# Altium schematic symbol library VC099_V13_20211125_Library.SchLib: 284 symbols (part 13 of 28)
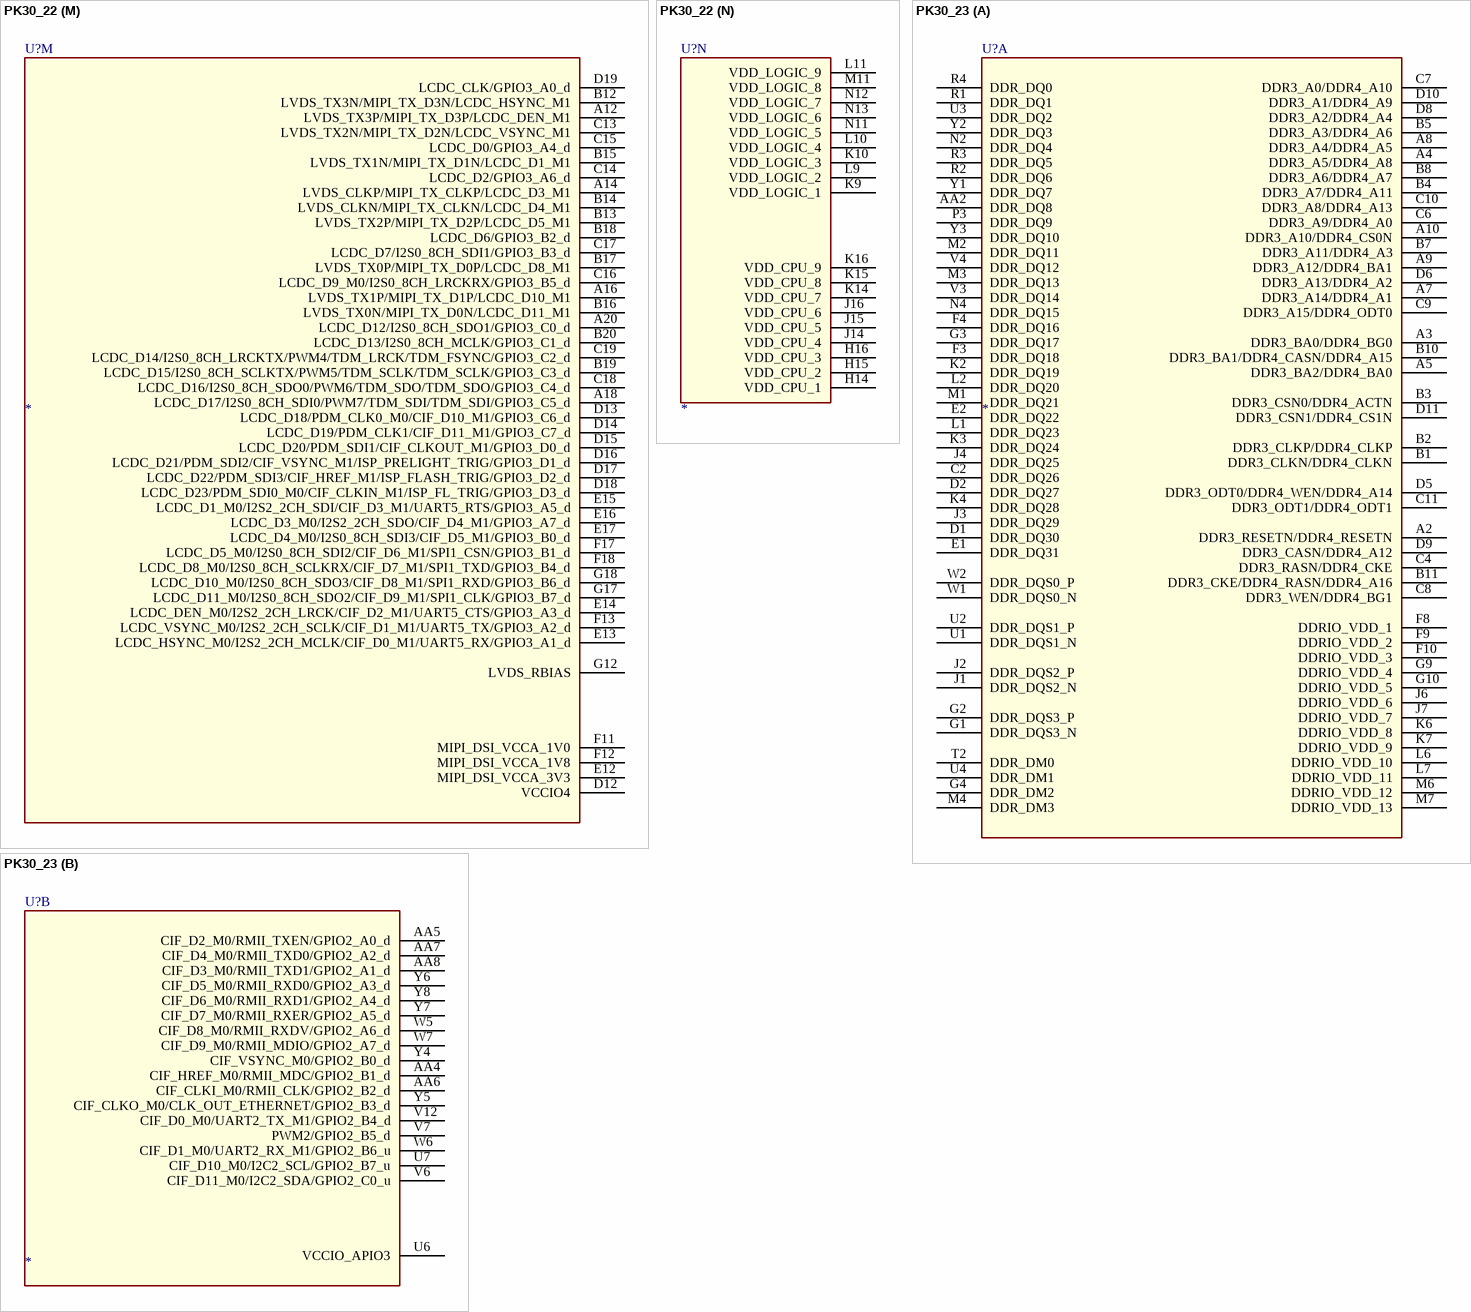
[diagram p375: symbols PK30_22 to PK30_23]

## PK30_22
designator U?
SPLIT_INST: TRUE; SWAP_INFO: (S1+S2+S3+S4+S5+S6+S7+S8+S9+S10+S11+S12+S13+S14)
part A pins: A2 DDR3_RESETN/DDR4_RESETN, A3 DDR3_BA0/DDR4_BG0, A4 DDR3_A5/DDR4_A8, A5 DDR3_BA2/DDR4_BA0, A7 DDR3_A14/DDR4_A1, A8 DDR3_A4/DDR4_A5, A9 DDR3_A12/DDR4_BA1, A10 DDR3_A10/DDR4_CS0N, AA2 DDR_DQ8, B1 DDR3_CLKN/DDR4_CLKN, B2 DDR3_CLKP/DDR4_CLKP, B3 DDR3_CSN0/DDR4_ACTN, B4 DDR3_A7/DDR4_A11, B5 DDR3_A3/DDR4_A6, B7 DDR3_A11/DDR4_A3, B8 DDR3_A6/DDR4_A7, B10 DDR3_BA1/DDR4_CASN/DDR4_A15, B11 DDR3_CKE/DDR4_RASN/DDR4_A16, C2 DDR_DQ26, C4 DDR3_RASN/DDR4_CKE, C6 DDR3_A9/DDR4_A0, C7 DDR3_A0/DDR4_A10, C8 DDR3_WEN/DDR4_BG1, C9 DDR3_A15/DDR4_ODT0, C10 DDR3_A8/DDR4_A13, C11 DDR3_ODT1/DDR4_ODT1, D1 DDR_DQ30, D2 DDR_DQ27, D5 DDR3_ODT0/DDR4_WEN/DDR4_A14, D6 DDR3_A13/DDR4_A2, D8 DDR3_A2/DDR4_A4, D9 DDR3_CASN/DDR4_A12, D10 DDR3_A1/DDR4_A9, D11 DDR3_CSN1/DDR4_CS1N, E1 DDR_DQ31, E2 DDR_DQ22, F3 DDR_DQ18, F4 DDR_DQ16, F8 DDRIO_VDD_1, F9 DDRIO_VDD_2, F10 DDRIO_VDD_3, G1 DDR_DQS3_N, G2 DDR_DQS3_P, G3 DDR_DQ17, G4 DDR_DM2, G9 DDRIO_VDD_4, G10 DDRIO_VDD_5, J1 DDR_DQS2_N, J2 DDR_DQS2_P, J3 DDR_DQ29, J4 DDR_DQ25, J6 DDRIO_VDD_6, J7 DDRIO_VDD_7, K2 DDR_DQ19, K3 DDR_DQ24, K4 DDR_DQ28, K6 DDRIO_VDD_8, K7 DDRIO_VDD_9, L1 DDR_DQ23, L2 DDR_DQ20, L6 DDRIO_VDD_10, L7 DDRIO_VDD_11, M1 DDR_DQ21, M2 DDR_DQ11, M3 DDR_DQ13, M4 DDR_DM3, M6 DDRIO_VDD_12, M7 DDRIO_VDD_13, N2 DDR_DQ4, N4 DDR_DQ15, P3 DDR_DQ9, R1 DDR_DQ1, R2 DDR_DQ6, R3 DDR_DQ5, R4 DDR_DQ0, T2 DDR_DM0, U1 DDR_DQS1_N, U2 DDR_DQS1_P, U3 DDR_DQ2, U4 DDR_DM1, V3 DDR_DQ14, V4 DDR_DQ12, W1 DDR_DQS0_N, W2 DDR_DQS0_P, Y1 DDR_DQ7, Y2 DDR_DQ3, Y3 DDR_DQ10
part B pins: AA4 CIF_HREF_M0/RMII_MDC/GPIO2_B1_d, AA5 CIF_D2_M0/RMII_TXEN/GPIO2_A0_d, AA6 CIF_CLKI_M0/RMII_CLK/GPIO2_B2_d, AA7 CIF_D4_M0/RMII_TXD0/GPIO2_A2_d, AA8 CIF_D3_M0/RMII_TXD1/GPIO2_A1_d, U6 VCCIO_APIO3, U7 CIF_D10_M0/I2C2_SCL/GPIO2_B7_u, V6 CIF_D11_M0/I2C2_SDA/GPIO2_C0_u, V7 PWM2/GPIO2_B5_d, V12 CIF_D0_M0/UART2_TX_M1/GPIO2_B4_d, W5 CIF_D8_M0/RMII_RXDV/GPIO2_A6_d, W6 CIF_D1_M0/UART2_RX_M1/GPIO2_B6_u, W7 CIF_D9_M0/RMII_MDIO/GPIO2_A7_d, Y4 CIF_VSYNC_M0/GPIO2_B0_d, Y5 CIF_CLKO_M0/CLK_OUT_ETHERNET/GPIO2_B3_d, Y6 CIF_D5_M0/RMII_RXD0/GPIO2_A3_d, Y7 CIF_D7_M0/RMII_RXER/GPIO2_A5_d, Y8 CIF_D6_M0/RMII_RXD1/GPIO2_A4_d
part C pins: A1 VSS_1, A11 VSS_5, A21 VSS_2, AA1 VSS_4, AA3 VSS_98, AA21 VSS_3, B6 VSS_6, B9 VSS_7, C3 VSS_8, C5 VSS_9, C12 VSS_10, D3 VSS_11, D4 VSS_12, D7 VSS_13, E3 VSS_14, E4 VSS_15, E5 VSS_16, E6 VSS_17, E7 VSS_18, E8 VSS_19, E9 VSS_20, E10 VSS_21, E11 VSS_24, F2 VSS_22, F5 VSS_23, F14 VSS_25, F15 VSS_26, F16 VSS_27, G5 VSS_28, G7 VSS_29, G8 VSS_30, G11 VSS_31, G13 VSS_33, G14 VSS_34, G15 VSS_48, G16 VSS_47, H2 VSS_37, H3 VSS_38, H4 VSS_39, H5 VSS_40, H7 VSS_41, H8 VSS_42, H9 VSS_43, H10 VSS_44, H11 VSS_45, H12 VSS_46, H13 VSS_55, H17 VSS_57, J5 VSS_49, J8 VSS_50, J9 VSS_51, J10 VSS_52, J11 VSS_53, J12 VSS_54, J13 VSS_64, J17 VSS_56, K5 VSS_58, K8 VSS_59, K11 VSS_61, K12 VSS_63, K13 VSS_65, K17 VSS_67, K18 VSS_68, L3 VSS_70, L4 VSS_71, L5 VSS_72, L8 VSS_73, L12 VSS_77, L13 VSS_69, L14 VSS_66, L15 VSS_87, L16 VSS_88, L17 VSS_78, L18 VSS_79, M5 VSS_80, M8 VSS_81, M9 VSS_84, M10 VSS_85, M12 VSS_62, M13 VSS_60, M14 VSS_75, M15 VSS_82, M16 VSS_83, M17 VSS_86, N3 VSS_89, N5 VSS_90, N6 VSS_91, N7 VSS_92, N8 VSS_93, N9 VSS_96, N10 VSS_97, N14 VSS_74, N15 VSS_94, N16 VSS_95, P4 VSS_100, P5 VSS_101, P6 VSS_102, P7 VSS_103, P8 VSS_104, P9 VSS_105, P10 VSS_106, P11 VSS_107, P12 VSS_108, P13 VSS_109, P14 VSS_110, P15 VSS_112, P16 VSS_111, R5 VSS_113, R6 VSS_114, R7 VSS_115, R8 VSS_116, R9 VSS_117, R10 VSS_118, R11 VSS_119, R12 VSS_120, R13 VSS_121, R14 VSS_122, R15 VSS_123, R16 VSS_124, R17 VSS_125, T3 VSS_126, T4 VSS_127, T5 VSS_128, T6 VSS_129, T7 VSS_130, T8 VSS_131, T9 VSS_132, T10 VSS_133, T11 VSS_134, T12 VSS_36, T14 VSS_136, T15 VSS_137, T16 VSS_138, T17 VSS_139, T18 VSS_140, U5 VSS_141, U14 VSS_142, U15 VSS_143, U16 VSS_144, U17 VSS_145, U18 VSS_146, V2 VSS_147, V5 VSS_148, V16 VSS_149, V17 VSS_150, V18 VSS_151, V19 VSS_152, W3 VSS_153, W4 VSS_135, W11 VSS_35, W17 VSS_99, W18 VSS_76
part D pins: U8 MIPI_CSI_AVDD_1V0, U9 MIPI_CSI_D2P, U10 MIPI_CSI_CLKN, U11 MIPI_CSI_RBIAS, V8 MIPI_CSI_D2N, V9 MIPI_CSI_D3P, V10 MIPI_CSI_CLKP, V11 MIPI_CSI_D0N, W8 MIPI_CSI_D3N, W9 MIPI_CSI_D1N, W10 MIPI_CSI_D0P, Y9 MIPI_CSI_D1P
part E pins: AA10 USB_OTG_DM, AA11 USB_RBIAS, AA12 USB_HOST_DP, U12 USB_AVDD_1V0, V13 USB_AVDD_1V8, W13 USB_AVDD_3V3, Y10 USB_OTG_DP, Y11 USB_ID, Y12 USB_HOST_DM, Y13 USB_DET
part F pins: U13 ADC_AVDD_1V8, V14 ADC_IN0, V15 ADC_IN2, W14 ADC_IN1
part G pins: AA13 I2S1_SDI/PDM_SDIO_M1/GPIO2_C5_d, AA14 I2S1_SCLK/GPIO2_C2_d, AA15 I2S1_LRCK_TX/GPIO2_C1_d, W15 PDM_CLK0/GPIO2_C6_d, W16 VCCIO_APIO5, Y14 I2S1_MCLK/GPIO2_C3_d, Y15 I2S1_SDO/GPIO2_C4_d
part H pins: AA16 SDMMC0_D3/UART4_TX/JTAG_TMS/GPIO1_D5_u, AA17 SDMMC0_D0/UART2_TX_M0/GPIO1_D2_u, AA18 SDMMC0_D1/UART2_RX_M0/GPIO1_D3_u, AA19 SDMMC0_D2/UART4_RX/JTAG_TCK/GPIO1_D4_u, Y16 SDMMC0_CMD/UART4_RTS/GPIO1_D7_u, Y17 SDMMC0_CLKO/UART4_CTS/TEST_CLKO/GPIO1_D6_d, Y18 VCCIO_APIO2
part I pins: AA20 SDMMC0_DETN/GPIO0_A3_u, M18 PLL_AVDD_1V8, N17 AVSS, N18 PLL_AVDD_1V0, P17 PMU_VDD_1V0, T13 OTP_VCC_1V8, T21 GPIO0_A5_u, U19 PMUIO1, U20 OSC_24M_IN, U21 OSC_24M_OUT, V20 PMIC_SLEEP/GPIO0_A4_d, V21 GPIO0_A2_d, W19 NPOR, W20 TEST, W21 TSADC_SHUT/GPIO0_A6_z, Y19 GPIO0_A7_u, Y20 GPIO0_A1_d, Y21 REF_CLKO/GPIO0_A0_d
part J pins: M19 UART0_CTS/PMU_DEBUG_SOUT/PMU_DEBUG2/GPIO0_B4_u, N19 UART0_RTS/TEST_CLK1/GPIO0_B5_u, N20 UART0_TX/GPIO0_B2_d, N21 UART3_TX_M0/PWM1/GPIO0_C0_d, P18 UART0_RX/GPIO0_B3_d, P19 FLASH_VOLSEL/GPIO0_B6_u, P20 CLKIO_32K/GPIO0_C4_z, P21 I2C0_SDA/GPIO0_B1_u, R18 PWM0/OTG_DRV/GPIO0_B7_d, R19 UART3_RX_M0/PWM3/GPIO0_C1_d, R20 I2C1_SDA/UART3_RTS_M0/GPIO0_C3_u, R21 I2C0_SCL/GPIO0_B0_u, T19 OSC_VCCIO/PMUIO2, T20 I2C1_SCL/UART3_CTS_M0/PMU_DEBUG5/GPIO0_C2_u
part K pins: H19 SDMMC1_CMD/GPIO1_C4_u, J19 SDMMC1_D3/GPIO1_D1_u, J20 UART1_RX/GPIO1_C0_u, K19 VCCIO1, K20 UART1_TX/GPIO1_C1_u, K21 UART1_CTS/GPIO1_C2_u, L19 SDMMC1_D1/GPIO1_C7_u, L20 SDMMC1_D0/GPIO1_C6_u, L21 UART1_RTS/GPIO1_C3_u, M20 SDMMC1_CLK/GPIO1_C5_d, M21 SDMMC1_D2/GPIO1_D0_u
part L pins: B21 FLASH_D7/EMMC_D7/GPIO1_A7_u, C20 FLASH_D6/EMMC_D6/GPIO1_A6_u, C21 FLASH_D2/EMMC_D2/SFC_SIO2/GPIO1_A2_u, D20 FLASH_D5/EMMC_D5/GPIO1_A5_u, D21 FLASH_D1/EMMC_D1/SFC_SIO1/GPIO1_A1_u, E18 FLASH_ALE/EMMC_RSTN/GPIO1_B3_d, E19 FLASH_D3/EMMC_D3/SFC_SIO3/GPIO1_A3_u, E20 FLASH_D0/EMMC_D0/SFC_SIO0/GPIO1_A0_u, E21 FLASH_D4/EMMC_D4/SFC_CSN0/GPIO1_A4_u, F19 FLASH_CS0/EMMC_PWREN/GPIO1_B0_u, G19 FLASH_DQS/EMMC_CMD/GPIO1_B2_u, G20 FLASH_CS1/SPI0_CSN/GPIO1_B6_u, G21 FLASH_CLE/UART3_CTS_M1/SPI0_TXD/I2C3_SDA/GPIO1_B4_d, H18 FLASH_RDY/EMMC_CLKOUT/SFC_CLK/GPIO1_B1_u, H20 FLASH_WRN/UART3_RTS_M1/SPI0_RXD/I2C3_SCL/GPIO1_B5_u, H21 FLASH_RDN/UART3_RX_M1/SPI0_CLK/GPIO1_B7_u, J18 VCCIO_FLASH/VCCIO6
part M pins: A12 LVDS_TX3P/MIPI_TX_D3P/LCDC_DEN_M1, A14 LVDS_CLKP/MIPI_TX_CLKP/LCDC_D3_M1, A16 LVDS_TX1P/MIPI_TX_D1P/LCDC_D10_M1, A18 LCDC_D17/I2S0_8CH_SDI0/PWM7/TDM_SDI/TDM_SDI/GPIO3_C5_d, A20 LCDC_D12/I2S0_8CH_SDO1/GPIO3_C0_d, B12 LVDS_TX3N/MIPI_TX_D3N/LCDC_HSYNC_M1, B13 LVDS_TX2P/MIPI_TX_D2P/LCDC_D5_M1, B14 LVDS_CLKN/MIPI_TX_CLKN/LCDC_D4_M1, B15 LVDS_TX1N/MIPI_TX_D1N/LCDC_D1_M1, B16 LVDS_TX0N/MIPI_TX_D0N/LCDC_D11_M1, B17 LVDS_TX0P/MIPI_TX_D0P/LCDC_D8_M1, B18 LCDC_D6/GPIO3_B2_d, B19 LCDC_D15/I2S0_8CH_SCLKTX/PWM5/TDM_SCLK/TDM_SCLK/GPIO3_C3_d, B20 LCDC_D13/I2S0_8CH_MCLK/GPIO3_C1_d, C13 LVDS_TX2N/MIPI_TX_D2N/LCDC_VSYNC_M1, C14 LCDC_D2/GPIO3_A6_d, C15 LCDC_D0/GPIO3_A4_d, C16 LCDC_D9_M0/I2S0_8CH_LRCKRX/GPIO3_B5_d, C17 LCDC_D7/I2S0_8CH_SDI1/GPIO3_B3_d, C18 LCDC_D16/I2S0_8CH_SDO0/PWM6/TDM_SDO/TDM_SDO/GPIO3_C4_d, C19 LCDC_D14/I2S0_8CH_LRCKTX/PWM4/TDM_LRCK/TDM_FSYNC/GPIO3_C2_d, D12 VCCIO4, D13 LCDC_D18/PDM_CLK0_M0/CIF_D10_M1/GPIO3_C6_d, D14 LCDC_D19/PDM_CLK1/CIF_D11_M1/GPIO3_C7_d, D15 LCDC_D20/PDM_SDI1/CIF_CLKOUT_M1/GPIO3_D0_d, D16 LCDC_D21/PDM_SDI2/CIF_VSYNC_M1/ISP_PRELIGHT_TRIG/GPIO3_D1_d, D17 LCDC_D22/PDM_SDI3/CIF_HREF_M1/ISP_FLASH_TRIG/GPIO3_D2_d, D18 LCDC_D23/PDM_SDI0_M0/CIF_CLKIN_M1/ISP_FL_TRIG/GPIO3_D3_d, D19 LCDC_CLK/GPIO3_A0_d, E12 MIPI_DSI_VCCA_3V3, E13 LCDC_HSYNC_M0/I2S2_2CH_MCLK/CIF_D0_M1/UART5_RX/GPIO3_A1_d, E14 LCDC_DEN_M0/I2S2_2CH_LRCK/CIF_D2_M1/UART5_CTS/GPIO3_A3_d, E15 LCDC_D1_M0/I2S2_2CH_SDI/CIF_D3_M1/UART5_RTS/GPIO3_A5_d, E16 LCDC_D3_M0/I2S2_2CH_SDO/CIF_D4_M1/GPIO3_A7_d, E17 LCDC_D4_M0/I2S0_8CH_SDI3/CIF_D5_M1/GPIO3_B0_d, F11 MIPI_DSI_VCCA_1V0, F12 MIPI_DSI_VCCA_1V8, F13 LCDC_VSYNC_M0/I2S2_2CH_SCLK/CIF_D1_M1/UART5_TX/GPIO3_A2_d, F17 LCDC_D5_M0/I2S0_8CH_SDI2/CIF_D6_M1/SPI1_CSN/GPIO3_B1_d, F18 LCDC_D8_M0/I2S0_8CH_SCLKRX/CIF_D7_M1/SPI1_TXD/GPIO3_B4_d, G12 LVDS_RBIAS, G17 LCDC_D11_M0/I2S0_8CH_SDO2/CIF_D9_M1/SPI1_CLK/GPIO3_B7_d, G18 LCDC_D10_M0/I2S0_8CH_SDO3/CIF_D8_M1/SPI1_RXD/GPIO3_B6_d
part N pins: H14 VDD_CPU_1, H15 VDD_CPU_2, H16 VDD_CPU_3, J14 VDD_CPU_4, J15 VDD_CPU_5, J16 VDD_CPU_6, K9 VDD_LOGIC_1, K10 VDD_LOGIC_3, K14 VDD_CPU_7, K15 VDD_CPU_8, K16 VDD_CPU_9, L9 VDD_LOGIC_2, L10 VDD_LOGIC_4, L11 VDD_LOGIC_9, M11 VDD_LOGIC_8, N11 VDD_LOGIC_5, N12 VDD_LOGIC_7, N13 VDD_LOGIC_6

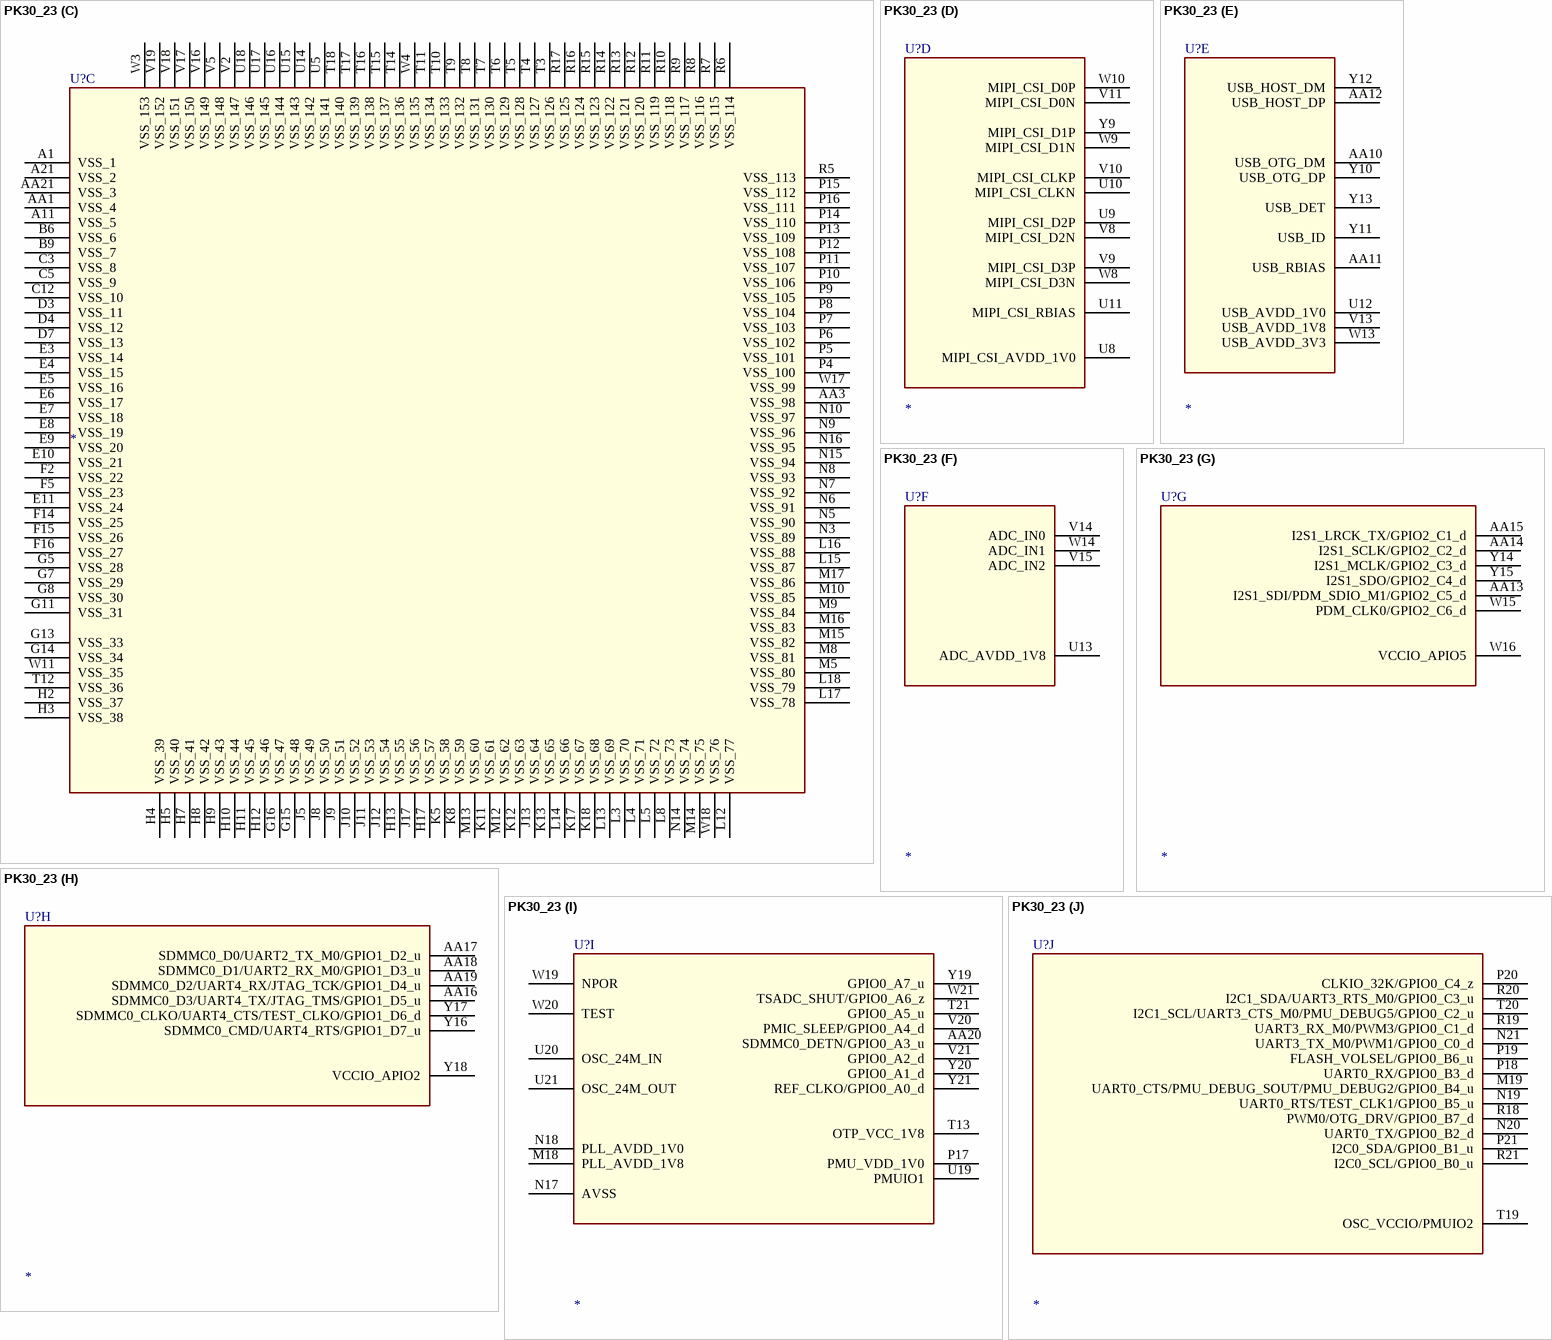
[diagram p177: symbol PK30_23]

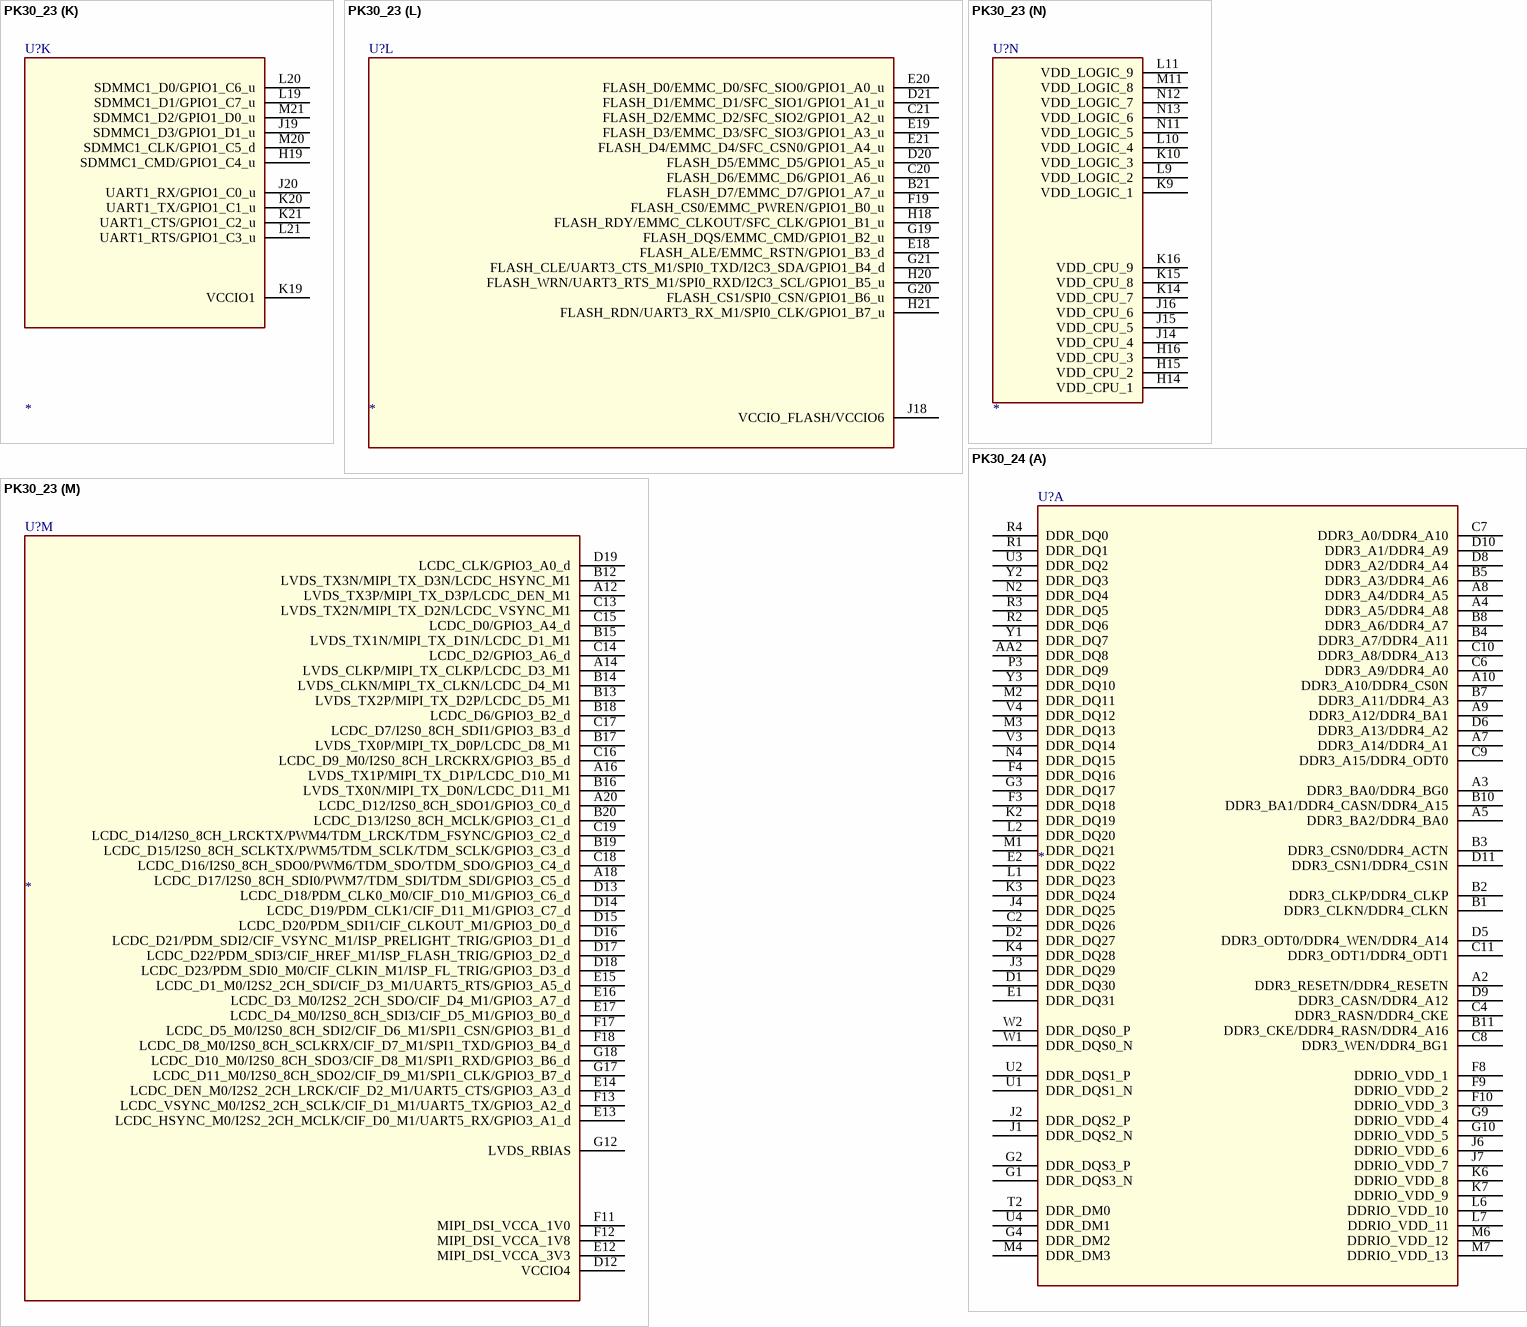
[diagram p178: symbols PK30_23 to PK30_24]

## PK30_23
designator U?
SPLIT_INST: TRUE; SWAP_INFO: (S1+S2+S3+S4+S5+S6+S7+S8+S9+S10+S11+S12+S13+S14)
part A pins: A2 DDR3_RESETN/DDR4_RESETN, A3 DDR3_BA0/DDR4_BG0, A4 DDR3_A5/DDR4_A8, A5 DDR3_BA2/DDR4_BA0, A7 DDR3_A14/DDR4_A1, A8 DDR3_A4/DDR4_A5, A9 DDR3_A12/DDR4_BA1, A10 DDR3_A10/DDR4_CS0N, AA2 DDR_DQ8, B1 DDR3_CLKN/DDR4_CLKN, B2 DDR3_CLKP/DDR4_CLKP, B3 DDR3_CSN0/DDR4_ACTN, B4 DDR3_A7/DDR4_A11, B5 DDR3_A3/DDR4_A6, B7 DDR3_A11/DDR4_A3, B8 DDR3_A6/DDR4_A7, B10 DDR3_BA1/DDR4_CASN/DDR4_A15, B11 DDR3_CKE/DDR4_RASN/DDR4_A16, C2 DDR_DQ26, C4 DDR3_RASN/DDR4_CKE, C6 DDR3_A9/DDR4_A0, C7 DDR3_A0/DDR4_A10, C8 DDR3_WEN/DDR4_BG1, C9 DDR3_A15/DDR4_ODT0, C10 DDR3_A8/DDR4_A13, C11 DDR3_ODT1/DDR4_ODT1, D1 DDR_DQ30, D2 DDR_DQ27, D5 DDR3_ODT0/DDR4_WEN/DDR4_A14, D6 DDR3_A13/DDR4_A2, D8 DDR3_A2/DDR4_A4, D9 DDR3_CASN/DDR4_A12, D10 DDR3_A1/DDR4_A9, D11 DDR3_CSN1/DDR4_CS1N, E1 DDR_DQ31, E2 DDR_DQ22, F3 DDR_DQ18, F4 DDR_DQ16, F8 DDRIO_VDD_1, F9 DDRIO_VDD_2, F10 DDRIO_VDD_3, G1 DDR_DQS3_N, G2 DDR_DQS3_P, G3 DDR_DQ17, G4 DDR_DM2, G9 DDRIO_VDD_4, G10 DDRIO_VDD_5, J1 DDR_DQS2_N, J2 DDR_DQS2_P, J3 DDR_DQ29, J4 DDR_DQ25, J6 DDRIO_VDD_6, J7 DDRIO_VDD_7, K2 DDR_DQ19, K3 DDR_DQ24, K4 DDR_DQ28, K6 DDRIO_VDD_8, K7 DDRIO_VDD_9, L1 DDR_DQ23, L2 DDR_DQ20, L6 DDRIO_VDD_10, L7 DDRIO_VDD_11, M1 DDR_DQ21, M2 DDR_DQ11, M3 DDR_DQ13, M4 DDR_DM3, M6 DDRIO_VDD_12, M7 DDRIO_VDD_13, N2 DDR_DQ4, N4 DDR_DQ15, P3 DDR_DQ9, R1 DDR_DQ1, R2 DDR_DQ6, R3 DDR_DQ5, R4 DDR_DQ0, T2 DDR_DM0, U1 DDR_DQS1_N, U2 DDR_DQS1_P, U3 DDR_DQ2, U4 DDR_DM1, V3 DDR_DQ14, V4 DDR_DQ12, W1 DDR_DQS0_N, W2 DDR_DQS0_P, Y1 DDR_DQ7, Y2 DDR_DQ3, Y3 DDR_DQ10
part B pins: AA4 CIF_HREF_M0/RMII_MDC/GPIO2_B1_d, AA5 CIF_D2_M0/RMII_TXEN/GPIO2_A0_d, AA6 CIF_CLKI_M0/RMII_CLK/GPIO2_B2_d, AA7 CIF_D4_M0/RMII_TXD0/GPIO2_A2_d, AA8 CIF_D3_M0/RMII_TXD1/GPIO2_A1_d, U6 VCCIO_APIO3, U7 CIF_D10_M0/I2C2_SCL/GPIO2_B7_u, V6 CIF_D11_M0/I2C2_SDA/GPIO2_C0_u, V7 PWM2/GPIO2_B5_d, V12 CIF_D0_M0/UART2_TX_M1/GPIO2_B4_d, W5 CIF_D8_M0/RMII_RXDV/GPIO2_A6_d, W6 CIF_D1_M0/UART2_RX_M1/GPIO2_B6_u, W7 CIF_D9_M0/RMII_MDIO/GPIO2_A7_d, Y4 CIF_VSYNC_M0/GPIO2_B0_d, Y5 CIF_CLKO_M0/CLK_OUT_ETHERNET/GPIO2_B3_d, Y6 CIF_D5_M0/RMII_RXD0/GPIO2_A3_d, Y7 CIF_D7_M0/RMII_RXER/GPIO2_A5_d, Y8 CIF_D6_M0/RMII_RXD1/GPIO2_A4_d
part C pins: A1 VSS_1, A11 VSS_5, A21 VSS_2, AA1 VSS_4, AA3 VSS_98, AA21 VSS_3, B6 VSS_6, B9 VSS_7, C3 VSS_8, C5 VSS_9, C12 VSS_10, D3 VSS_11, D4 VSS_12, D7 VSS_13, E3 VSS_14, E4 VSS_15, E5 VSS_16, E6 VSS_17, E7 VSS_18, E8 VSS_19, E9 VSS_20, E10 VSS_21, E11 VSS_24, F2 VSS_22, F5 VSS_23, F14 VSS_25, F15 VSS_26, F16 VSS_27, G5 VSS_28, G7 VSS_29, G8 VSS_30, G11 VSS_31, G13 VSS_33, G14 VSS_34, G15 VSS_48, G16 VSS_47, H2 VSS_37, H3 VSS_38, H4 VSS_39, H5 VSS_40, H7 VSS_41, H8 VSS_42, H9 VSS_43, H10 VSS_44, H11 VSS_45, H12 VSS_46, H13 VSS_55, H17 VSS_57, J5 VSS_49, J8 VSS_50, J9 VSS_51, J10 VSS_52, J11 VSS_53, J12 VSS_54, J13 VSS_64, J17 VSS_56, K5 VSS_58, K8 VSS_59, K11 VSS_61, K12 VSS_63, K13 VSS_65, K17 VSS_67, K18 VSS_68, L3 VSS_70, L4 VSS_71, L5 VSS_72, L8 VSS_73, L12 VSS_77, L13 VSS_69, L14 VSS_66, L15 VSS_87, L16 VSS_88, L17 VSS_78, L18 VSS_79, M5 VSS_80, M8 VSS_81, M9 VSS_84, M10 VSS_85, M12 VSS_62, M13 VSS_60, M14 VSS_75, M15 VSS_82, M16 VSS_83, M17 VSS_86, N3 VSS_89, N5 VSS_90, N6 VSS_91, N7 VSS_92, N8 VSS_93, N9 VSS_96, N10 VSS_97, N14 VSS_74, N15 VSS_94, N16 VSS_95, P4 VSS_100, P5 VSS_101, P6 VSS_102, P7 VSS_103, P8 VSS_104, P9 VSS_105, P10 VSS_106, P11 VSS_107, P12 VSS_108, P13 VSS_109, P14 VSS_110, P15 VSS_112, P16 VSS_111, R5 VSS_113, R6 VSS_114, R7 VSS_115, R8 VSS_116, R9 VSS_117, R10 VSS_118, R11 VSS_119, R12 VSS_120, R13 VSS_121, R14 VSS_122, R15 VSS_123, R16 VSS_124, R17 VSS_125, T3 VSS_126, T4 VSS_127, T5 VSS_128, T6 VSS_129, T7 VSS_130, T8 VSS_131, T9 VSS_132, T10 VSS_133, T11 VSS_134, T12 VSS_36, T14 VSS_136, T15 VSS_137, T16 VSS_138, T17 VSS_139, T18 VSS_140, U5 VSS_141, U14 VSS_142, U15 VSS_143, U16 VSS_144, U17 VSS_145, U18 VSS_146, V2 VSS_147, V5 VSS_148, V16 VSS_149, V17 VSS_150, V18 VSS_151, V19 VSS_152, W3 VSS_153, W4 VSS_135, W11 VSS_35, W17 VSS_99, W18 VSS_76
part D pins: U8 MIPI_CSI_AVDD_1V0, U9 MIPI_CSI_D2P, U10 MIPI_CSI_CLKN, U11 MIPI_CSI_RBIAS, V8 MIPI_CSI_D2N, V9 MIPI_CSI_D3P, V10 MIPI_CSI_CLKP, V11 MIPI_CSI_D0N, W8 MIPI_CSI_D3N, W9 MIPI_CSI_D1N, W10 MIPI_CSI_D0P, Y9 MIPI_CSI_D1P
part E pins: AA10 USB_OTG_DM, AA11 USB_RBIAS, AA12 USB_HOST_DP, U12 USB_AVDD_1V0, V13 USB_AVDD_1V8, W13 USB_AVDD_3V3, Y10 USB_OTG_DP, Y11 USB_ID, Y12 USB_HOST_DM, Y13 USB_DET
part F pins: U13 ADC_AVDD_1V8, V14 ADC_IN0, V15 ADC_IN2, W14 ADC_IN1
part G pins: AA13 I2S1_SDI/PDM_SDIO_M1/GPIO2_C5_d, AA14 I2S1_SCLK/GPIO2_C2_d, AA15 I2S1_LRCK_TX/GPIO2_C1_d, W15 PDM_CLK0/GPIO2_C6_d, W16 VCCIO_APIO5, Y14 I2S1_MCLK/GPIO2_C3_d, Y15 I2S1_SDO/GPIO2_C4_d
part H pins: AA16 SDMMC0_D3/UART4_TX/JTAG_TMS/GPIO1_D5_u, AA17 SDMMC0_D0/UART2_TX_M0/GPIO1_D2_u, AA18 SDMMC0_D1/UART2_RX_M0/GPIO1_D3_u, AA19 SDMMC0_D2/UART4_RX/JTAG_TCK/GPIO1_D4_u, Y16 SDMMC0_CMD/UART4_RTS/GPIO1_D7_u, Y17 SDMMC0_CLKO/UART4_CTS/TEST_CLKO/GPIO1_D6_d, Y18 VCCIO_APIO2
part I pins: AA20 SDMMC0_DETN/GPIO0_A3_u, M18 PLL_AVDD_1V8, N17 AVSS, N18 PLL_AVDD_1V0, P17 PMU_VDD_1V0, T13 OTP_VCC_1V8, T21 GPIO0_A5_u, U19 PMUIO1, U20 OSC_24M_IN, U21 OSC_24M_OUT, V20 PMIC_SLEEP/GPIO0_A4_d, V21 GPIO0_A2_d, W19 NPOR, W20 TEST, W21 TSADC_SHUT/GPIO0_A6_z, Y19 GPIO0_A7_u, Y20 GPIO0_A1_d, Y21 REF_CLKO/GPIO0_A0_d
part J pins: M19 UART0_CTS/PMU_DEBUG_SOUT/PMU_DEBUG2/GPIO0_B4_u, N19 UART0_RTS/TEST_CLK1/GPIO0_B5_u, N20 UART0_TX/GPIO0_B2_d, N21 UART3_TX_M0/PWM1/GPIO0_C0_d, P18 UART0_RX/GPIO0_B3_d, P19 FLASH_VOLSEL/GPIO0_B6_u, P20 CLKIO_32K/GPIO0_C4_z, P21 I2C0_SDA/GPIO0_B1_u, R18 PWM0/OTG_DRV/GPIO0_B7_d, R19 UART3_RX_M0/PWM3/GPIO0_C1_d, R20 I2C1_SDA/UART3_RTS_M0/GPIO0_C3_u, R21 I2C0_SCL/GPIO0_B0_u, T19 OSC_VCCIO/PMUIO2, T20 I2C1_SCL/UART3_CTS_M0/PMU_DEBUG5/GPIO0_C2_u
part K pins: H19 SDMMC1_CMD/GPIO1_C4_u, J19 SDMMC1_D3/GPIO1_D1_u, J20 UART1_RX/GPIO1_C0_u, K19 VCCIO1, K20 UART1_TX/GPIO1_C1_u, K21 UART1_CTS/GPIO1_C2_u, L19 SDMMC1_D1/GPIO1_C7_u, L20 SDMMC1_D0/GPIO1_C6_u, L21 UART1_RTS/GPIO1_C3_u, M20 SDMMC1_CLK/GPIO1_C5_d, M21 SDMMC1_D2/GPIO1_D0_u
part L pins: B21 FLASH_D7/EMMC_D7/GPIO1_A7_u, C20 FLASH_D6/EMMC_D6/GPIO1_A6_u, C21 FLASH_D2/EMMC_D2/SFC_SIO2/GPIO1_A2_u, D20 FLASH_D5/EMMC_D5/GPIO1_A5_u, D21 FLASH_D1/EMMC_D1/SFC_SIO1/GPIO1_A1_u, E18 FLASH_ALE/EMMC_RSTN/GPIO1_B3_d, E19 FLASH_D3/EMMC_D3/SFC_SIO3/GPIO1_A3_u, E20 FLASH_D0/EMMC_D0/SFC_SIO0/GPIO1_A0_u, E21 FLASH_D4/EMMC_D4/SFC_CSN0/GPIO1_A4_u, F19 FLASH_CS0/EMMC_PWREN/GPIO1_B0_u, G19 FLASH_DQS/EMMC_CMD/GPIO1_B2_u, G20 FLASH_CS1/SPI0_CSN/GPIO1_B6_u, G21 FLASH_CLE/UART3_CTS_M1/SPI0_TXD/I2C3_SDA/GPIO1_B4_d, H18 FLASH_RDY/EMMC_CLKOUT/SFC_CLK/GPIO1_B1_u, H20 FLASH_WRN/UART3_RTS_M1/SPI0_RXD/I2C3_SCL/GPIO1_B5_u, H21 FLASH_RDN/UART3_RX_M1/SPI0_CLK/GPIO1_B7_u, J18 VCCIO_FLASH/VCCIO6
part M pins: A12 LVDS_TX3P/MIPI_TX_D3P/LCDC_DEN_M1, A14 LVDS_CLKP/MIPI_TX_CLKP/LCDC_D3_M1, A16 LVDS_TX1P/MIPI_TX_D1P/LCDC_D10_M1, A18 LCDC_D17/I2S0_8CH_SDI0/PWM7/TDM_SDI/TDM_SDI/GPIO3_C5_d, A20 LCDC_D12/I2S0_8CH_SDO1/GPIO3_C0_d, B12 LVDS_TX3N/MIPI_TX_D3N/LCDC_HSYNC_M1, B13 LVDS_TX2P/MIPI_TX_D2P/LCDC_D5_M1, B14 LVDS_CLKN/MIPI_TX_CLKN/LCDC_D4_M1, B15 LVDS_TX1N/MIPI_TX_D1N/LCDC_D1_M1, B16 LVDS_TX0N/MIPI_TX_D0N/LCDC_D11_M1, B17 LVDS_TX0P/MIPI_TX_D0P/LCDC_D8_M1, B18 LCDC_D6/GPIO3_B2_d, B19 LCDC_D15/I2S0_8CH_SCLKTX/PWM5/TDM_SCLK/TDM_SCLK/GPIO3_C3_d, B20 LCDC_D13/I2S0_8CH_MCLK/GPIO3_C1_d, C13 LVDS_TX2N/MIPI_TX_D2N/LCDC_VSYNC_M1, C14 LCDC_D2/GPIO3_A6_d, C15 LCDC_D0/GPIO3_A4_d, C16 LCDC_D9_M0/I2S0_8CH_LRCKRX/GPIO3_B5_d, C17 LCDC_D7/I2S0_8CH_SDI1/GPIO3_B3_d, C18 LCDC_D16/I2S0_8CH_SDO0/PWM6/TDM_SDO/TDM_SDO/GPIO3_C4_d, C19 LCDC_D14/I2S0_8CH_LRCKTX/PWM4/TDM_LRCK/TDM_FSYNC/GPIO3_C2_d, D12 VCCIO4, D13 LCDC_D18/PDM_CLK0_M0/CIF_D10_M1/GPIO3_C6_d, D14 LCDC_D19/PDM_CLK1/CIF_D11_M1/GPIO3_C7_d, D15 LCDC_D20/PDM_SDI1/CIF_CLKOUT_M1/GPIO3_D0_d, D16 LCDC_D21/PDM_SDI2/CIF_VSYNC_M1/ISP_PRELIGHT_TRIG/GPIO3_D1_d, D17 LCDC_D22/PDM_SDI3/CIF_HREF_M1/ISP_FLASH_TRIG/GPIO3_D2_d, D18 LCDC_D23/PDM_SDI0_M0/CIF_CLKIN_M1/ISP_FL_TRIG/GPIO3_D3_d, D19 LCDC_CLK/GPIO3_A0_d, E12 MIPI_DSI_VCCA_3V3, E13 LCDC_HSYNC_M0/I2S2_2CH_MCLK/CIF_D0_M1/UART5_RX/GPIO3_A1_d, E14 LCDC_DEN_M0/I2S2_2CH_LRCK/CIF_D2_M1/UART5_CTS/GPIO3_A3_d, E15 LCDC_D1_M0/I2S2_2CH_SDI/CIF_D3_M1/UART5_RTS/GPIO3_A5_d, E16 LCDC_D3_M0/I2S2_2CH_SDO/CIF_D4_M1/GPIO3_A7_d, E17 LCDC_D4_M0/I2S0_8CH_SDI3/CIF_D5_M1/GPIO3_B0_d, F11 MIPI_DSI_VCCA_1V0, F12 MIPI_DSI_VCCA_1V8, F13 LCDC_VSYNC_M0/I2S2_2CH_SCLK/CIF_D1_M1/UART5_TX/GPIO3_A2_d, F17 LCDC_D5_M0/I2S0_8CH_SDI2/CIF_D6_M1/SPI1_CSN/GPIO3_B1_d, F18 LCDC_D8_M0/I2S0_8CH_SCLKRX/CIF_D7_M1/SPI1_TXD/GPIO3_B4_d, G12 LVDS_RBIAS, G17 LCDC_D11_M0/I2S0_8CH_SDO2/CIF_D9_M1/SPI1_CLK/GPIO3_B7_d, G18 LCDC_D10_M0/I2S0_8CH_SDO3/CIF_D8_M1/SPI1_RXD/GPIO3_B6_d
part N pins: H14 VDD_CPU_1, H15 VDD_CPU_2, H16 VDD_CPU_3, J14 VDD_CPU_4, J15 VDD_CPU_5, J16 VDD_CPU_6, K9 VDD_LOGIC_1, K10 VDD_LOGIC_3, K14 VDD_CPU_7, K15 VDD_CPU_8, K16 VDD_CPU_9, L9 VDD_LOGIC_2, L10 VDD_LOGIC_4, L11 VDD_LOGIC_9, M11 VDD_LOGIC_8, N11 VDD_LOGIC_5, N12 VDD_LOGIC_7, N13 VDD_LOGIC_6

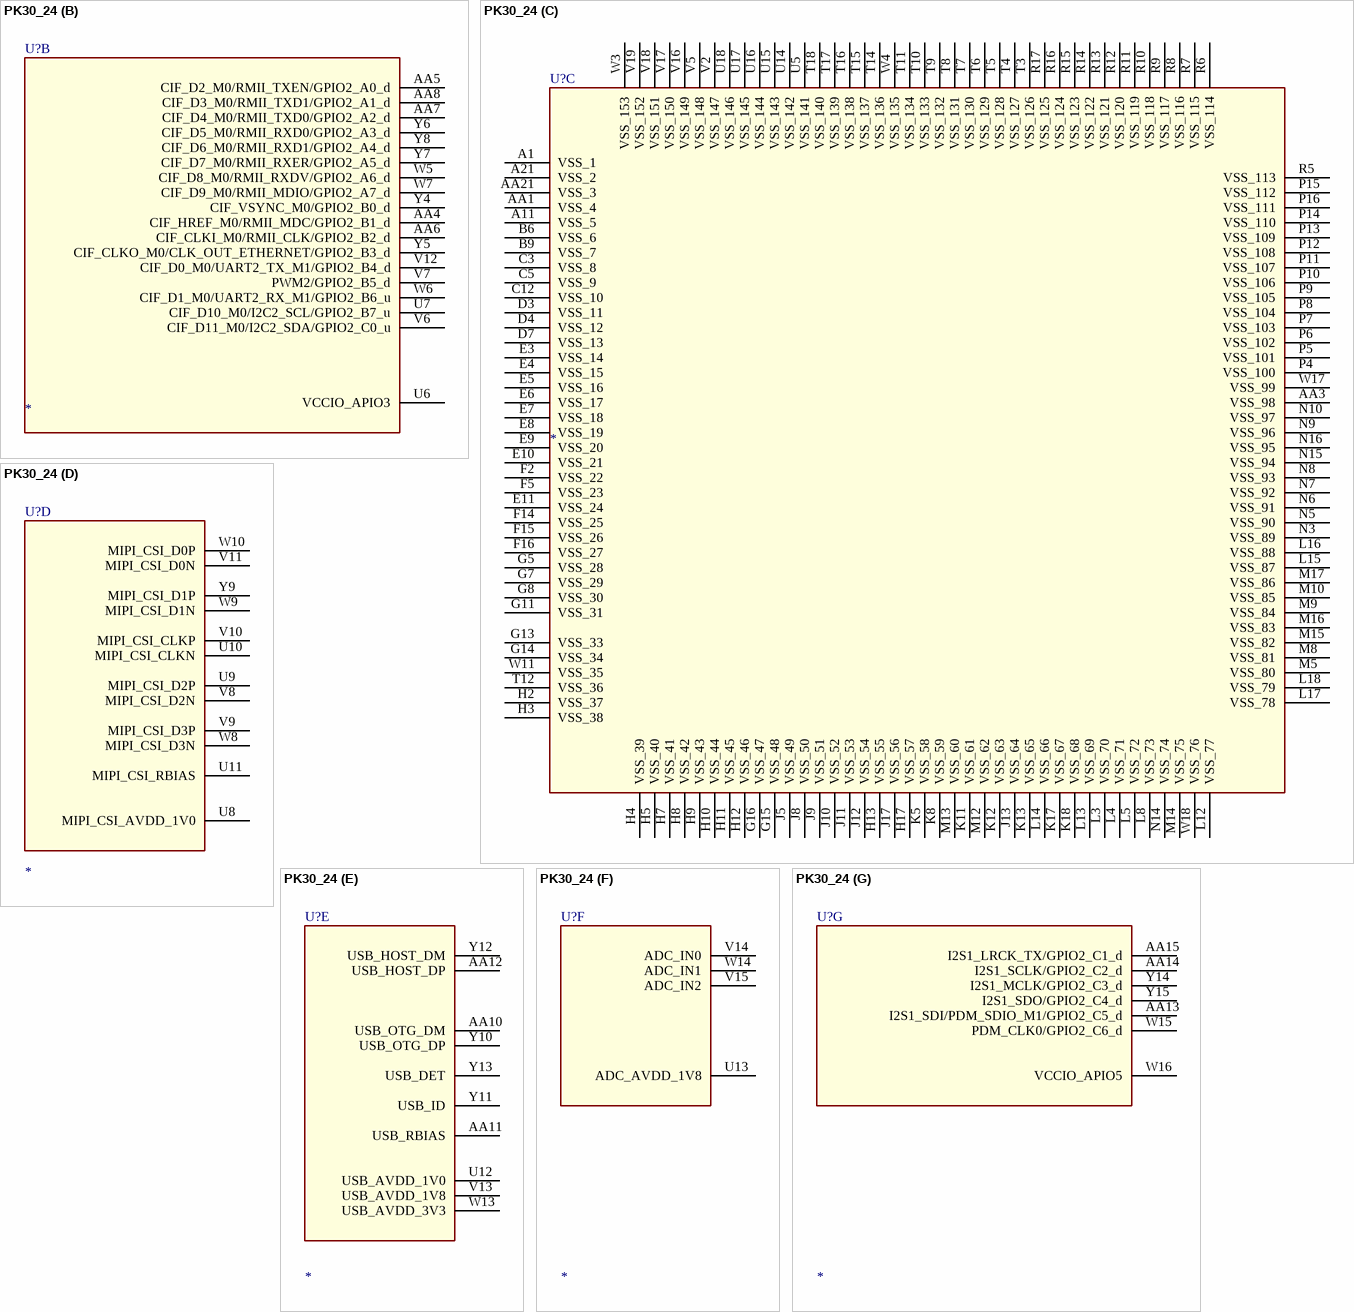
[diagram p179: symbol PK30_24]

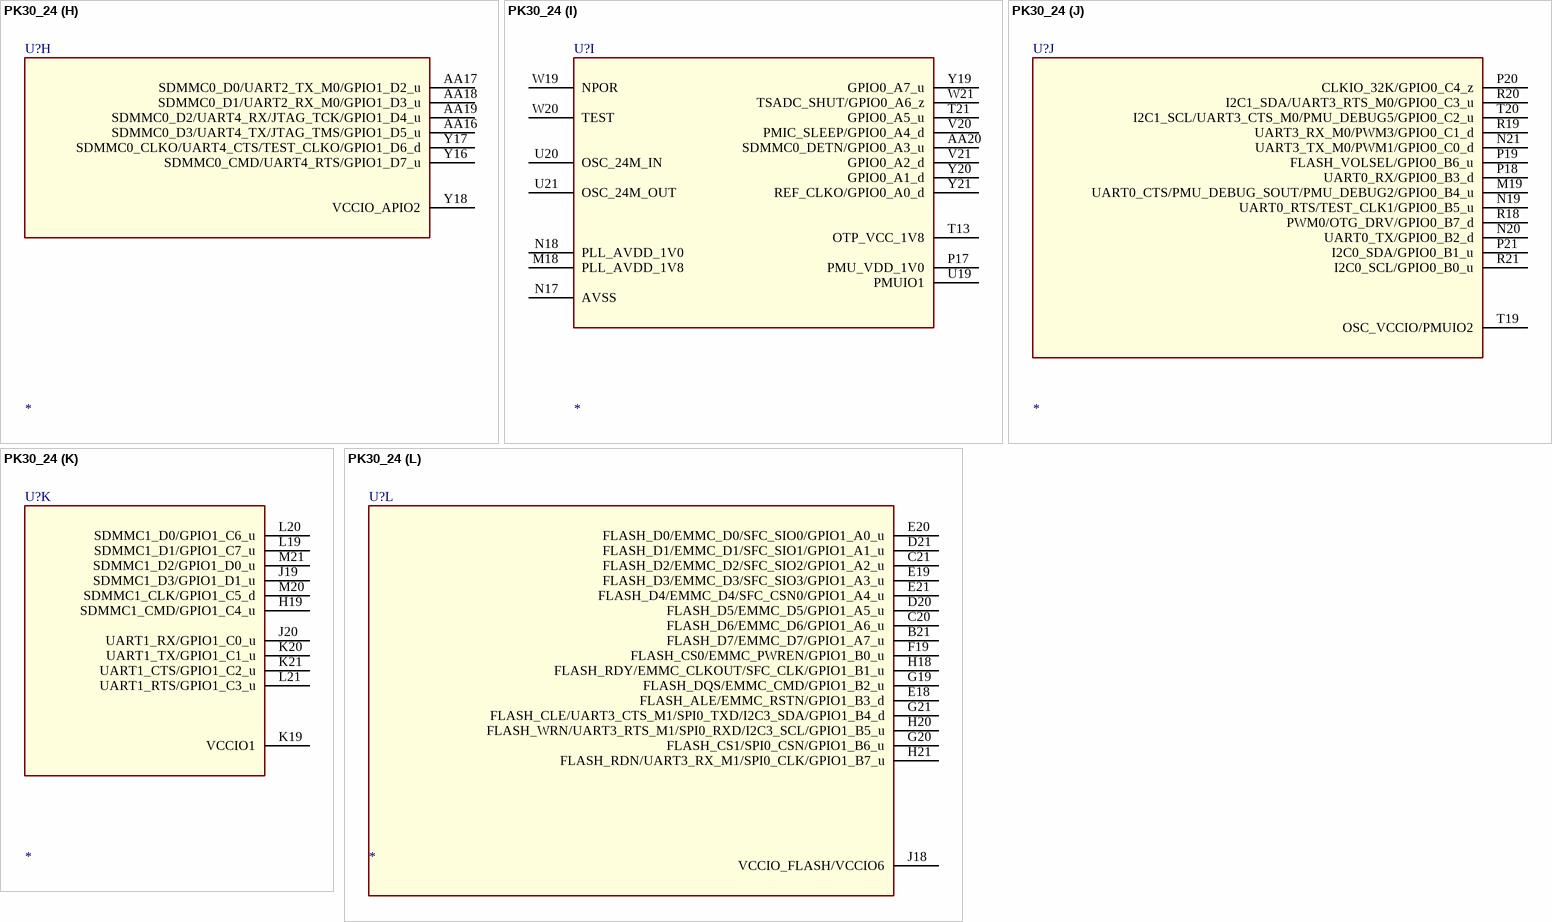
[diagram p180: symbol PK30_24]

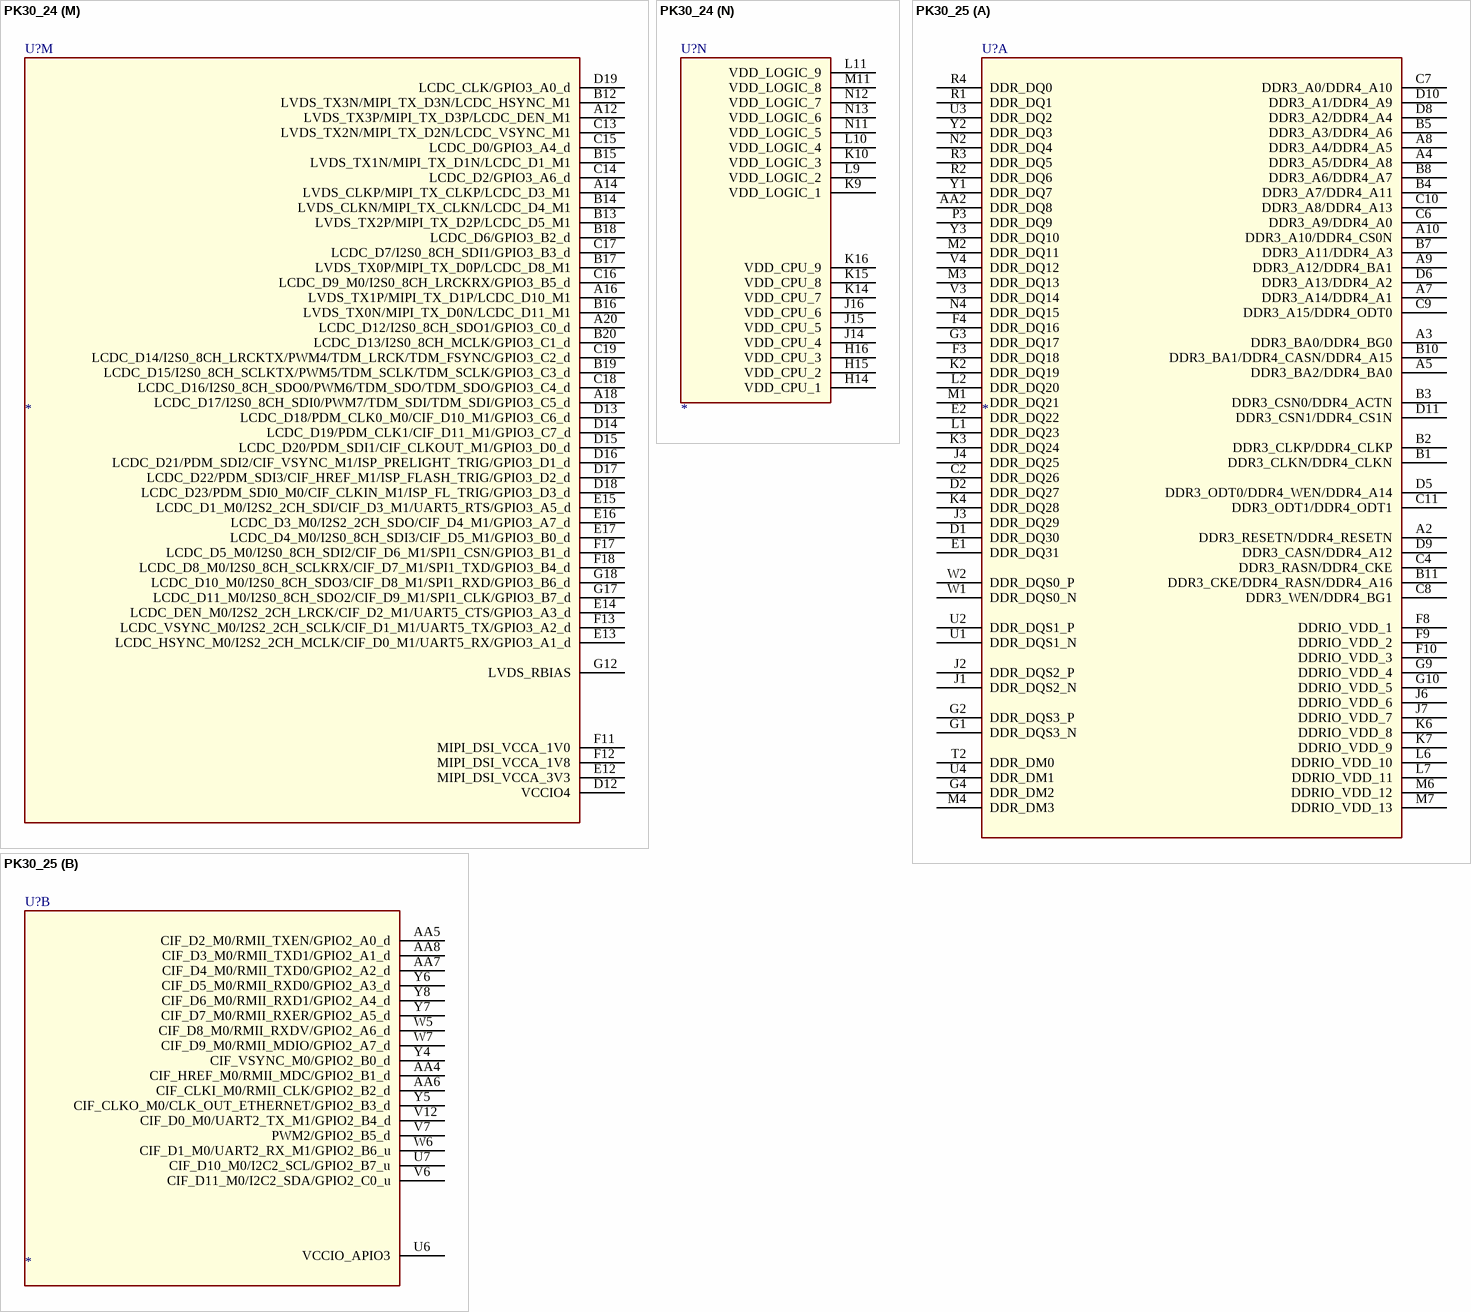
[diagram p181: symbols PK30_24 to PK30_25]

## PK30_24
designator U?
SPLIT_INST: TRUE; SWAP_INFO: (S1+S2+S3+S4+S5+S6+S7+S8+S9+S10+S11+S12+S13+S14)
part A pins: A2 DDR3_RESETN/DDR4_RESETN, A3 DDR3_BA0/DDR4_BG0, A4 DDR3_A5/DDR4_A8, A5 DDR3_BA2/DDR4_BA0, A7 DDR3_A14/DDR4_A1, A8 DDR3_A4/DDR4_A5, A9 DDR3_A12/DDR4_BA1, A10 DDR3_A10/DDR4_CS0N, AA2 DDR_DQ8, B1 DDR3_CLKN/DDR4_CLKN, B2 DDR3_CLKP/DDR4_CLKP, B3 DDR3_CSN0/DDR4_ACTN, B4 DDR3_A7/DDR4_A11, B5 DDR3_A3/DDR4_A6, B7 DDR3_A11/DDR4_A3, B8 DDR3_A6/DDR4_A7, B10 DDR3_BA1/DDR4_CASN/DDR4_A15, B11 DDR3_CKE/DDR4_RASN/DDR4_A16, C2 DDR_DQ26, C4 DDR3_RASN/DDR4_CKE, C6 DDR3_A9/DDR4_A0, C7 DDR3_A0/DDR4_A10, C8 DDR3_WEN/DDR4_BG1, C9 DDR3_A15/DDR4_ODT0, C10 DDR3_A8/DDR4_A13, C11 DDR3_ODT1/DDR4_ODT1, D1 DDR_DQ30, D2 DDR_DQ27, D5 DDR3_ODT0/DDR4_WEN/DDR4_A14, D6 DDR3_A13/DDR4_A2, D8 DDR3_A2/DDR4_A4, D9 DDR3_CASN/DDR4_A12, D10 DDR3_A1/DDR4_A9, D11 DDR3_CSN1/DDR4_CS1N, E1 DDR_DQ31, E2 DDR_DQ22, F3 DDR_DQ18, F4 DDR_DQ16, F8 DDRIO_VDD_1, F9 DDRIO_VDD_2, F10 DDRIO_VDD_3, G1 DDR_DQS3_N, G2 DDR_DQS3_P, G3 DDR_DQ17, G4 DDR_DM2, G9 DDRIO_VDD_4, G10 DDRIO_VDD_5, J1 DDR_DQS2_N, J2 DDR_DQS2_P, J3 DDR_DQ29, J4 DDR_DQ25, J6 DDRIO_VDD_6, J7 DDRIO_VDD_7, K2 DDR_DQ19, K3 DDR_DQ24, K4 DDR_DQ28, K6 DDRIO_VDD_8, K7 DDRIO_VDD_9, L1 DDR_DQ23, L2 DDR_DQ20, L6 DDRIO_VDD_10, L7 DDRIO_VDD_11, M1 DDR_DQ21, M2 DDR_DQ11, M3 DDR_DQ13, M4 DDR_DM3, M6 DDRIO_VDD_12, M7 DDRIO_VDD_13, N2 DDR_DQ4, N4 DDR_DQ15, P3 DDR_DQ9, R1 DDR_DQ1, R2 DDR_DQ6, R3 DDR_DQ5, R4 DDR_DQ0, T2 DDR_DM0, U1 DDR_DQS1_N, U2 DDR_DQS1_P, U3 DDR_DQ2, U4 DDR_DM1, V3 DDR_DQ14, V4 DDR_DQ12, W1 DDR_DQS0_N, W2 DDR_DQS0_P, Y1 DDR_DQ7, Y2 DDR_DQ3, Y3 DDR_DQ10
part B pins: AA4 CIF_HREF_M0/RMII_MDC/GPIO2_B1_d, AA5 CIF_D2_M0/RMII_TXEN/GPIO2_A0_d, AA6 CIF_CLKI_M0/RMII_CLK/GPIO2_B2_d, AA7 CIF_D4_M0/RMII_TXD0/GPIO2_A2_d, AA8 CIF_D3_M0/RMII_TXD1/GPIO2_A1_d, U6 VCCIO_APIO3, U7 CIF_D10_M0/I2C2_SCL/GPIO2_B7_u, V6 CIF_D11_M0/I2C2_SDA/GPIO2_C0_u, V7 PWM2/GPIO2_B5_d, V12 CIF_D0_M0/UART2_TX_M1/GPIO2_B4_d, W5 CIF_D8_M0/RMII_RXDV/GPIO2_A6_d, W6 CIF_D1_M0/UART2_RX_M1/GPIO2_B6_u, W7 CIF_D9_M0/RMII_MDIO/GPIO2_A7_d, Y4 CIF_VSYNC_M0/GPIO2_B0_d, Y5 CIF_CLKO_M0/CLK_OUT_ETHERNET/GPIO2_B3_d, Y6 CIF_D5_M0/RMII_RXD0/GPIO2_A3_d, Y7 CIF_D7_M0/RMII_RXER/GPIO2_A5_d, Y8 CIF_D6_M0/RMII_RXD1/GPIO2_A4_d
part C pins: A1 VSS_1, A11 VSS_5, A21 VSS_2, AA1 VSS_4, AA3 VSS_98, AA21 VSS_3, B6 VSS_6, B9 VSS_7, C3 VSS_8, C5 VSS_9, C12 VSS_10, D3 VSS_11, D4 VSS_12, D7 VSS_13, E3 VSS_14, E4 VSS_15, E5 VSS_16, E6 VSS_17, E7 VSS_18, E8 VSS_19, E9 VSS_20, E10 VSS_21, E11 VSS_24, F2 VSS_22, F5 VSS_23, F14 VSS_25, F15 VSS_26, F16 VSS_27, G5 VSS_28, G7 VSS_29, G8 VSS_30, G11 VSS_31, G13 VSS_33, G14 VSS_34, G15 VSS_48, G16 VSS_47, H2 VSS_37, H3 VSS_38, H4 VSS_39, H5 VSS_40, H7 VSS_41, H8 VSS_42, H9 VSS_43, H10 VSS_44, H11 VSS_45, H12 VSS_46, H13 VSS_55, H17 VSS_57, J5 VSS_49, J8 VSS_50, J9 VSS_51, J10 VSS_52, J11 VSS_53, J12 VSS_54, J13 VSS_64, J17 VSS_56, K5 VSS_58, K8 VSS_59, K11 VSS_61, K12 VSS_63, K13 VSS_65, K17 VSS_67, K18 VSS_68, L3 VSS_70, L4 VSS_71, L5 VSS_72, L8 VSS_73, L12 VSS_77, L13 VSS_69, L14 VSS_66, L15 VSS_87, L16 VSS_88, L17 VSS_78, L18 VSS_79, M5 VSS_80, M8 VSS_81, M9 VSS_84, M10 VSS_85, M12 VSS_62, M13 VSS_60, M14 VSS_75, M15 VSS_82, M16 VSS_83, M17 VSS_86, N3 VSS_89, N5 VSS_90, N6 VSS_91, N7 VSS_92, N8 VSS_93, N9 VSS_96, N10 VSS_97, N14 VSS_74, N15 VSS_94, N16 VSS_95, P4 VSS_100, P5 VSS_101, P6 VSS_102, P7 VSS_103, P8 VSS_104, P9 VSS_105, P10 VSS_106, P11 VSS_107, P12 VSS_108, P13 VSS_109, P14 VSS_110, P15 VSS_112, P16 VSS_111, R5 VSS_113, R6 VSS_114, R7 VSS_115, R8 VSS_116, R9 VSS_117, R10 VSS_118, R11 VSS_119, R12 VSS_120, R13 VSS_121, R14 VSS_122, R15 VSS_123, R16 VSS_124, R17 VSS_125, T3 VSS_126, T4 VSS_127, T5 VSS_128, T6 VSS_129, T7 VSS_130, T8 VSS_131, T9 VSS_132, T10 VSS_133, T11 VSS_134, T12 VSS_36, T14 VSS_136, T15 VSS_137, T16 VSS_138, T17 VSS_139, T18 VSS_140, U5 VSS_141, U14 VSS_142, U15 VSS_143, U16 VSS_144, U17 VSS_145, U18 VSS_146, V2 VSS_147, V5 VSS_148, V16 VSS_149, V17 VSS_150, V18 VSS_151, V19 VSS_152, W3 VSS_153, W4 VSS_135, W11 VSS_35, W17 VSS_99, W18 VSS_76
part D pins: U8 MIPI_CSI_AVDD_1V0, U9 MIPI_CSI_D2P, U10 MIPI_CSI_CLKN, U11 MIPI_CSI_RBIAS, V8 MIPI_CSI_D2N, V9 MIPI_CSI_D3P, V10 MIPI_CSI_CLKP, V11 MIPI_CSI_D0N, W8 MIPI_CSI_D3N, W9 MIPI_CSI_D1N, W10 MIPI_CSI_D0P, Y9 MIPI_CSI_D1P
part E pins: AA10 USB_OTG_DM, AA11 USB_RBIAS, AA12 USB_HOST_DP, U12 USB_AVDD_1V0, V13 USB_AVDD_1V8, W13 USB_AVDD_3V3, Y10 USB_OTG_DP, Y11 USB_ID, Y12 USB_HOST_DM, Y13 USB_DET
part F pins: U13 ADC_AVDD_1V8, V14 ADC_IN0, V15 ADC_IN2, W14 ADC_IN1
part G pins: AA13 I2S1_SDI/PDM_SDIO_M1/GPIO2_C5_d, AA14 I2S1_SCLK/GPIO2_C2_d, AA15 I2S1_LRCK_TX/GPIO2_C1_d, W15 PDM_CLK0/GPIO2_C6_d, W16 VCCIO_APIO5, Y14 I2S1_MCLK/GPIO2_C3_d, Y15 I2S1_SDO/GPIO2_C4_d
part H pins: AA16 SDMMC0_D3/UART4_TX/JTAG_TMS/GPIO1_D5_u, AA17 SDMMC0_D0/UART2_TX_M0/GPIO1_D2_u, AA18 SDMMC0_D1/UART2_RX_M0/GPIO1_D3_u, AA19 SDMMC0_D2/UART4_RX/JTAG_TCK/GPIO1_D4_u, Y16 SDMMC0_CMD/UART4_RTS/GPIO1_D7_u, Y17 SDMMC0_CLKO/UART4_CTS/TEST_CLKO/GPIO1_D6_d, Y18 VCCIO_APIO2
part I pins: AA20 SDMMC0_DETN/GPIO0_A3_u, M18 PLL_AVDD_1V8, N17 AVSS, N18 PLL_AVDD_1V0, P17 PMU_VDD_1V0, T13 OTP_VCC_1V8, T21 GPIO0_A5_u, U19 PMUIO1, U20 OSC_24M_IN, U21 OSC_24M_OUT, V20 PMIC_SLEEP/GPIO0_A4_d, V21 GPIO0_A2_d, W19 NPOR, W20 TEST, W21 TSADC_SHUT/GPIO0_A6_z, Y19 GPIO0_A7_u, Y20 GPIO0_A1_d, Y21 REF_CLKO/GPIO0_A0_d
part J pins: M19 UART0_CTS/PMU_DEBUG_SOUT/PMU_DEBUG2/GPIO0_B4_u, N19 UART0_RTS/TEST_CLK1/GPIO0_B5_u, N20 UART0_TX/GPIO0_B2_d, N21 UART3_TX_M0/PWM1/GPIO0_C0_d, P18 UART0_RX/GPIO0_B3_d, P19 FLASH_VOLSEL/GPIO0_B6_u, P20 CLKIO_32K/GPIO0_C4_z, P21 I2C0_SDA/GPIO0_B1_u, R18 PWM0/OTG_DRV/GPIO0_B7_d, R19 UART3_RX_M0/PWM3/GPIO0_C1_d, R20 I2C1_SDA/UART3_RTS_M0/GPIO0_C3_u, R21 I2C0_SCL/GPIO0_B0_u, T19 OSC_VCCIO/PMUIO2, T20 I2C1_SCL/UART3_CTS_M0/PMU_DEBUG5/GPIO0_C2_u
part K pins: H19 SDMMC1_CMD/GPIO1_C4_u, J19 SDMMC1_D3/GPIO1_D1_u, J20 UART1_RX/GPIO1_C0_u, K19 VCCIO1, K20 UART1_TX/GPIO1_C1_u, K21 UART1_CTS/GPIO1_C2_u, L19 SDMMC1_D1/GPIO1_C7_u, L20 SDMMC1_D0/GPIO1_C6_u, L21 UART1_RTS/GPIO1_C3_u, M20 SDMMC1_CLK/GPIO1_C5_d, M21 SDMMC1_D2/GPIO1_D0_u
part L pins: B21 FLASH_D7/EMMC_D7/GPIO1_A7_u, C20 FLASH_D6/EMMC_D6/GPIO1_A6_u, C21 FLASH_D2/EMMC_D2/SFC_SIO2/GPIO1_A2_u, D20 FLASH_D5/EMMC_D5/GPIO1_A5_u, D21 FLASH_D1/EMMC_D1/SFC_SIO1/GPIO1_A1_u, E18 FLASH_ALE/EMMC_RSTN/GPIO1_B3_d, E19 FLASH_D3/EMMC_D3/SFC_SIO3/GPIO1_A3_u, E20 FLASH_D0/EMMC_D0/SFC_SIO0/GPIO1_A0_u, E21 FLASH_D4/EMMC_D4/SFC_CSN0/GPIO1_A4_u, F19 FLASH_CS0/EMMC_PWREN/GPIO1_B0_u, G19 FLASH_DQS/EMMC_CMD/GPIO1_B2_u, G20 FLASH_CS1/SPI0_CSN/GPIO1_B6_u, G21 FLASH_CLE/UART3_CTS_M1/SPI0_TXD/I2C3_SDA/GPIO1_B4_d, H18 FLASH_RDY/EMMC_CLKOUT/SFC_CLK/GPIO1_B1_u, H20 FLASH_WRN/UART3_RTS_M1/SPI0_RXD/I2C3_SCL/GPIO1_B5_u, H21 FLASH_RDN/UART3_RX_M1/SPI0_CLK/GPIO1_B7_u, J18 VCCIO_FLASH/VCCIO6
part M pins: A12 LVDS_TX3P/MIPI_TX_D3P/LCDC_DEN_M1, A14 LVDS_CLKP/MIPI_TX_CLKP/LCDC_D3_M1, A16 LVDS_TX1P/MIPI_TX_D1P/LCDC_D10_M1, A18 LCDC_D17/I2S0_8CH_SDI0/PWM7/TDM_SDI/TDM_SDI/GPIO3_C5_d, A20 LCDC_D12/I2S0_8CH_SDO1/GPIO3_C0_d, B12 LVDS_TX3N/MIPI_TX_D3N/LCDC_HSYNC_M1, B13 LVDS_TX2P/MIPI_TX_D2P/LCDC_D5_M1, B14 LVDS_CLKN/MIPI_TX_CLKN/LCDC_D4_M1, B15 LVDS_TX1N/MIPI_TX_D1N/LCDC_D1_M1, B16 LVDS_TX0N/MIPI_TX_D0N/LCDC_D11_M1, B17 LVDS_TX0P/MIPI_TX_D0P/LCDC_D8_M1, B18 LCDC_D6/GPIO3_B2_d, B19 LCDC_D15/I2S0_8CH_SCLKTX/PWM5/TDM_SCLK/TDM_SCLK/GPIO3_C3_d, B20 LCDC_D13/I2S0_8CH_MCLK/GPIO3_C1_d, C13 LVDS_TX2N/MIPI_TX_D2N/LCDC_VSYNC_M1, C14 LCDC_D2/GPIO3_A6_d, C15 LCDC_D0/GPIO3_A4_d, C16 LCDC_D9_M0/I2S0_8CH_LRCKRX/GPIO3_B5_d, C17 LCDC_D7/I2S0_8CH_SDI1/GPIO3_B3_d, C18 LCDC_D16/I2S0_8CH_SDO0/PWM6/TDM_SDO/TDM_SDO/GPIO3_C4_d, C19 LCDC_D14/I2S0_8CH_LRCKTX/PWM4/TDM_LRCK/TDM_FSYNC/GPIO3_C2_d, D12 VCCIO4, D13 LCDC_D18/PDM_CLK0_M0/CIF_D10_M1/GPIO3_C6_d, D14 LCDC_D19/PDM_CLK1/CIF_D11_M1/GPIO3_C7_d, D15 LCDC_D20/PDM_SDI1/CIF_CLKOUT_M1/GPIO3_D0_d, D16 LCDC_D21/PDM_SDI2/CIF_VSYNC_M1/ISP_PRELIGHT_TRIG/GPIO3_D1_d, D17 LCDC_D22/PDM_SDI3/CIF_HREF_M1/ISP_FLASH_TRIG/GPIO3_D2_d, D18 LCDC_D23/PDM_SDI0_M0/CIF_CLKIN_M1/ISP_FL_TRIG/GPIO3_D3_d, D19 LCDC_CLK/GPIO3_A0_d, E12 MIPI_DSI_VCCA_3V3, E13 LCDC_HSYNC_M0/I2S2_2CH_MCLK/CIF_D0_M1/UART5_RX/GPIO3_A1_d, E14 LCDC_DEN_M0/I2S2_2CH_LRCK/CIF_D2_M1/UART5_CTS/GPIO3_A3_d, E15 LCDC_D1_M0/I2S2_2CH_SDI/CIF_D3_M1/UART5_RTS/GPIO3_A5_d, E16 LCDC_D3_M0/I2S2_2CH_SDO/CIF_D4_M1/GPIO3_A7_d, E17 LCDC_D4_M0/I2S0_8CH_SDI3/CIF_D5_M1/GPIO3_B0_d, F11 MIPI_DSI_VCCA_1V0, F12 MIPI_DSI_VCCA_1V8, F13 LCDC_VSYNC_M0/I2S2_2CH_SCLK/CIF_D1_M1/UART5_TX/GPIO3_A2_d, F17 LCDC_D5_M0/I2S0_8CH_SDI2/CIF_D6_M1/SPI1_CSN/GPIO3_B1_d, F18 LCDC_D8_M0/I2S0_8CH_SCLKRX/CIF_D7_M1/SPI1_TXD/GPIO3_B4_d, G12 LVDS_RBIAS, G17 LCDC_D11_M0/I2S0_8CH_SDO2/CIF_D9_M1/SPI1_CLK/GPIO3_B7_d, G18 LCDC_D10_M0/I2S0_8CH_SDO3/CIF_D8_M1/SPI1_RXD/GPIO3_B6_d
part N pins: H14 VDD_CPU_1, H15 VDD_CPU_2, H16 VDD_CPU_3, J14 VDD_CPU_4, J15 VDD_CPU_5, J16 VDD_CPU_6, K9 VDD_LOGIC_1, K10 VDD_LOGIC_3, K14 VDD_CPU_7, K15 VDD_CPU_8, K16 VDD_CPU_9, L9 VDD_LOGIC_2, L10 VDD_LOGIC_4, L11 VDD_LOGIC_9, M11 VDD_LOGIC_8, N11 VDD_LOGIC_5, N12 VDD_LOGIC_7, N13 VDD_LOGIC_6

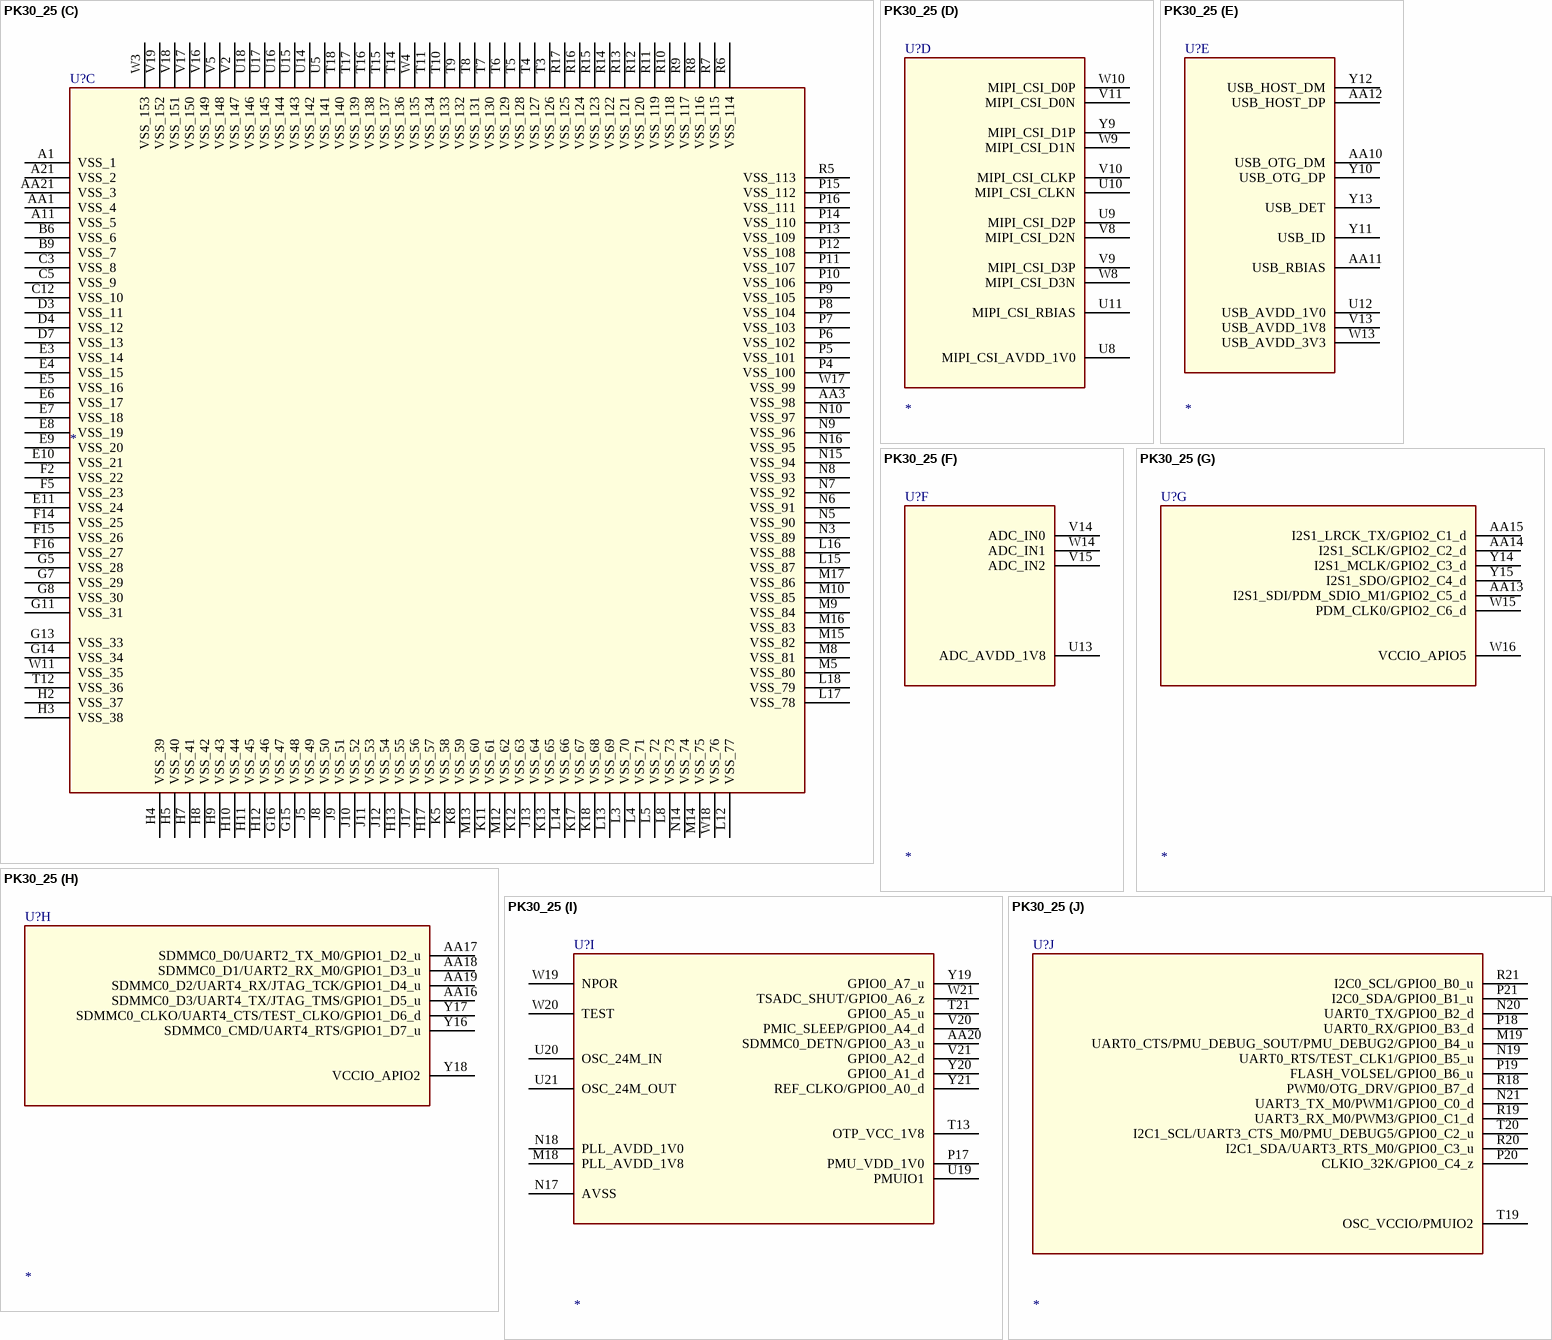
[diagram p182: symbol PK30_25]

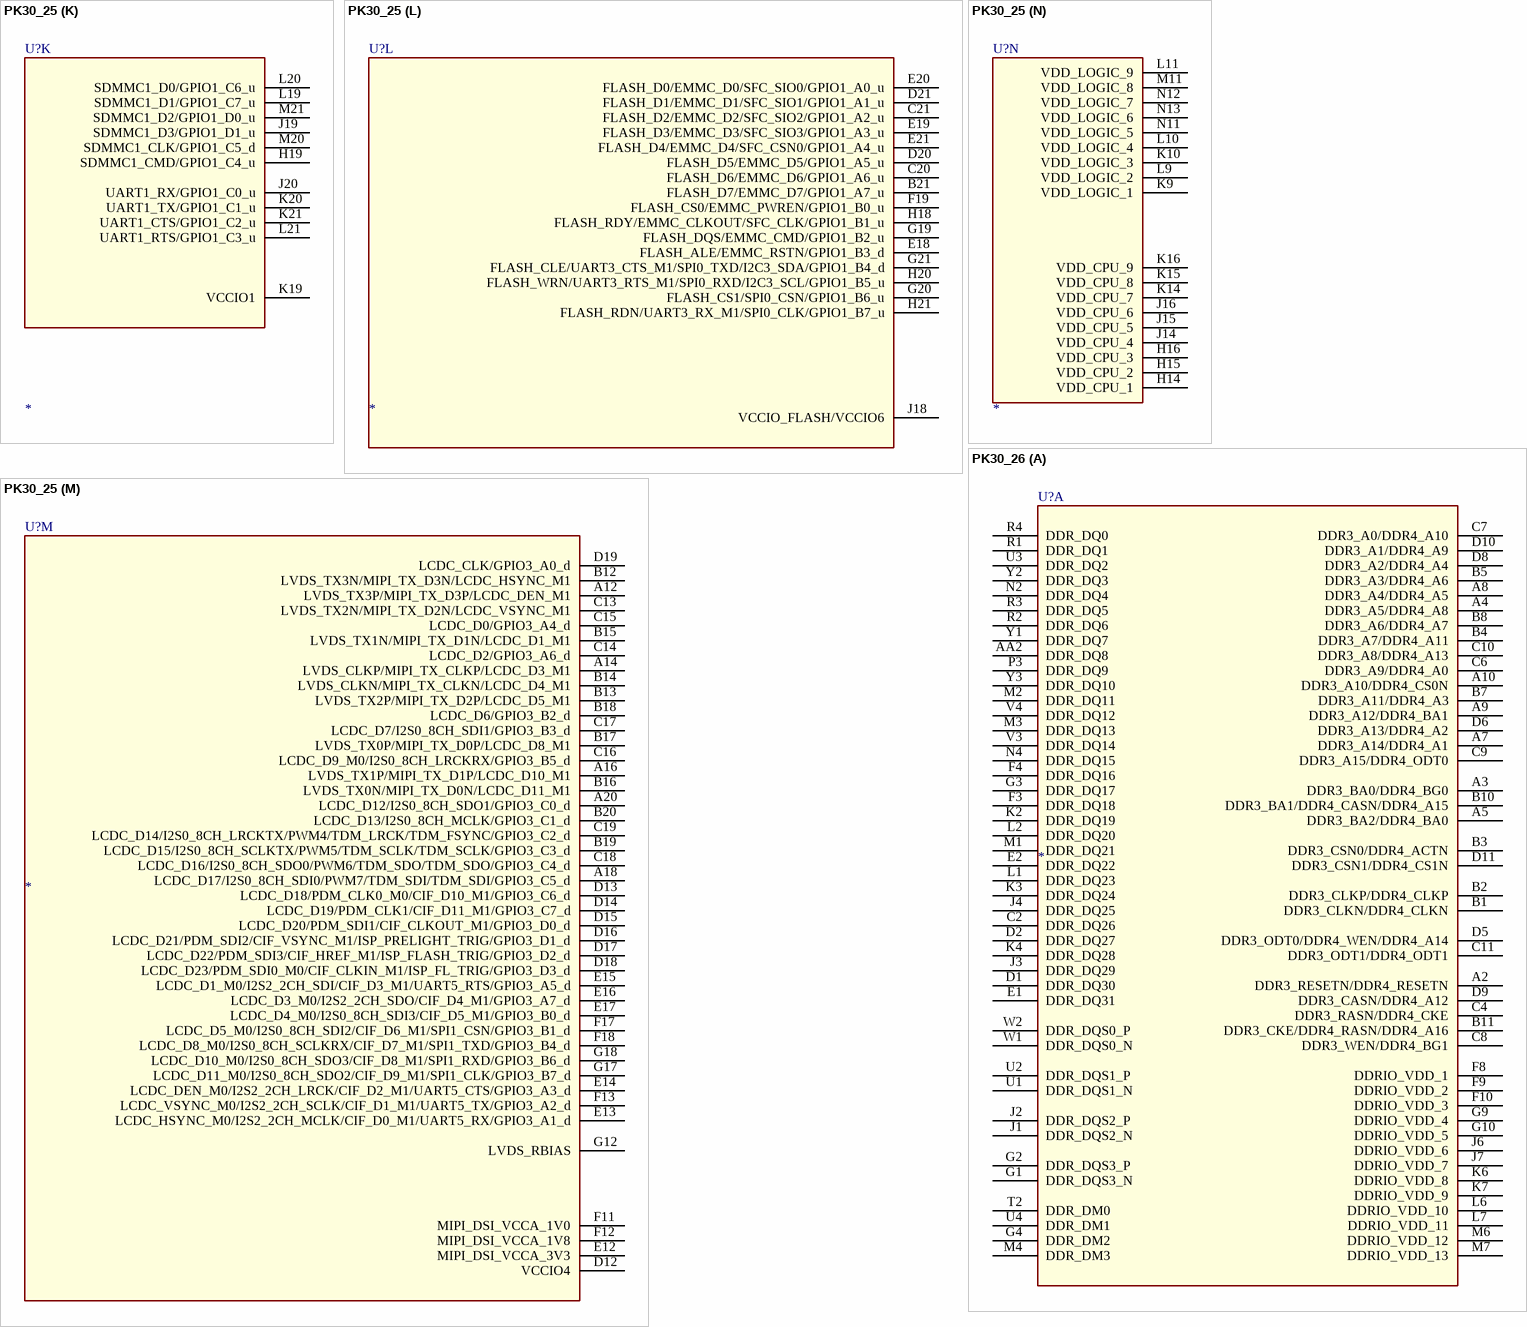
[diagram p183: symbols PK30_25 to PK30_26]

## PK30_25
designator U?
SWAP_INFO: (S1+S2+S3+S4+S5+S6+S7+S8+S9+S10+S11+S12+S13+S14); SPLIT_INST: TRUE
part A pins: A2 DDR3_RESETN/DDR4_RESETN, A3 DDR3_BA0/DDR4_BG0, A4 DDR3_A5/DDR4_A8, A5 DDR3_BA2/DDR4_BA0, A7 DDR3_A14/DDR4_A1, A8 DDR3_A4/DDR4_A5, A9 DDR3_A12/DDR4_BA1, A10 DDR3_A10/DDR4_CS0N, AA2 DDR_DQ8, B1 DDR3_CLKN/DDR4_CLKN, B2 DDR3_CLKP/DDR4_CLKP, B3 DDR3_CSN0/DDR4_ACTN, B4 DDR3_A7/DDR4_A11, B5 DDR3_A3/DDR4_A6, B7 DDR3_A11/DDR4_A3, B8 DDR3_A6/DDR4_A7, B10 DDR3_BA1/DDR4_CASN/DDR4_A15, B11 DDR3_CKE/DDR4_RASN/DDR4_A16, C2 DDR_DQ26, C4 DDR3_RASN/DDR4_CKE, C6 DDR3_A9/DDR4_A0, C7 DDR3_A0/DDR4_A10, C8 DDR3_WEN/DDR4_BG1, C9 DDR3_A15/DDR4_ODT0, C10 DDR3_A8/DDR4_A13, C11 DDR3_ODT1/DDR4_ODT1, D1 DDR_DQ30, D2 DDR_DQ27, D5 DDR3_ODT0/DDR4_WEN/DDR4_A14, D6 DDR3_A13/DDR4_A2, D8 DDR3_A2/DDR4_A4, D9 DDR3_CASN/DDR4_A12, D10 DDR3_A1/DDR4_A9, D11 DDR3_CSN1/DDR4_CS1N, E1 DDR_DQ31, E2 DDR_DQ22, F3 DDR_DQ18, F4 DDR_DQ16, F8 DDRIO_VDD_1, F9 DDRIO_VDD_2, F10 DDRIO_VDD_3, G1 DDR_DQS3_N, G2 DDR_DQS3_P, G3 DDR_DQ17, G4 DDR_DM2, G9 DDRIO_VDD_4, G10 DDRIO_VDD_5, J1 DDR_DQS2_N, J2 DDR_DQS2_P, J3 DDR_DQ29, J4 DDR_DQ25, J6 DDRIO_VDD_6, J7 DDRIO_VDD_7, K2 DDR_DQ19, K3 DDR_DQ24, K4 DDR_DQ28, K6 DDRIO_VDD_8, K7 DDRIO_VDD_9, L1 DDR_DQ23, L2 DDR_DQ20, L6 DDRIO_VDD_10, L7 DDRIO_VDD_11, M1 DDR_DQ21, M2 DDR_DQ11, M3 DDR_DQ13, M4 DDR_DM3, M6 DDRIO_VDD_12, M7 DDRIO_VDD_13, N2 DDR_DQ4, N4 DDR_DQ15, P3 DDR_DQ9, R1 DDR_DQ1, R2 DDR_DQ6, R3 DDR_DQ5, R4 DDR_DQ0, T2 DDR_DM0, U1 DDR_DQS1_N, U2 DDR_DQS1_P, U3 DDR_DQ2, U4 DDR_DM1, V3 DDR_DQ14, V4 DDR_DQ12, W1 DDR_DQS0_N, W2 DDR_DQS0_P, Y1 DDR_DQ7, Y2 DDR_DQ3, Y3 DDR_DQ10
part B pins: AA4 CIF_HREF_M0/RMII_MDC/GPIO2_B1_d, AA5 CIF_D2_M0/RMII_TXEN/GPIO2_A0_d, AA6 CIF_CLKI_M0/RMII_CLK/GPIO2_B2_d, AA7 CIF_D4_M0/RMII_TXD0/GPIO2_A2_d, AA8 CIF_D3_M0/RMII_TXD1/GPIO2_A1_d, U6 VCCIO_APIO3, U7 CIF_D10_M0/I2C2_SCL/GPIO2_B7_u, V6 CIF_D11_M0/I2C2_SDA/GPIO2_C0_u, V7 PWM2/GPIO2_B5_d, V12 CIF_D0_M0/UART2_TX_M1/GPIO2_B4_d, W5 CIF_D8_M0/RMII_RXDV/GPIO2_A6_d, W6 CIF_D1_M0/UART2_RX_M1/GPIO2_B6_u, W7 CIF_D9_M0/RMII_MDIO/GPIO2_A7_d, Y4 CIF_VSYNC_M0/GPIO2_B0_d, Y5 CIF_CLKO_M0/CLK_OUT_ETHERNET/GPIO2_B3_d, Y6 CIF_D5_M0/RMII_RXD0/GPIO2_A3_d, Y7 CIF_D7_M0/RMII_RXER/GPIO2_A5_d, Y8 CIF_D6_M0/RMII_RXD1/GPIO2_A4_d
part C pins: A1 VSS_1, A11 VSS_5, A21 VSS_2, AA1 VSS_4, AA3 VSS_98, AA21 VSS_3, B6 VSS_6, B9 VSS_7, C3 VSS_8, C5 VSS_9, C12 VSS_10, D3 VSS_11, D4 VSS_12, D7 VSS_13, E3 VSS_14, E4 VSS_15, E5 VSS_16, E6 VSS_17, E7 VSS_18, E8 VSS_19, E9 VSS_20, E10 VSS_21, E11 VSS_24, F2 VSS_22, F5 VSS_23, F14 VSS_25, F15 VSS_26, F16 VSS_27, G5 VSS_28, G7 VSS_29, G8 VSS_30, G11 VSS_31, G13 VSS_33, G14 VSS_34, G15 VSS_48, G16 VSS_47, H2 VSS_37, H3 VSS_38, H4 VSS_39, H5 VSS_40, H7 VSS_41, H8 VSS_42, H9 VSS_43, H10 VSS_44, H11 VSS_45, H12 VSS_46, H13 VSS_55, H17 VSS_57, J5 VSS_49, J8 VSS_50, J9 VSS_51, J10 VSS_52, J11 VSS_53, J12 VSS_54, J13 VSS_64, J17 VSS_56, K5 VSS_58, K8 VSS_59, K11 VSS_61, K12 VSS_63, K13 VSS_65, K17 VSS_67, K18 VSS_68, L3 VSS_70, L4 VSS_71, L5 VSS_72, L8 VSS_73, L12 VSS_77, L13 VSS_69, L14 VSS_66, L15 VSS_87, L16 VSS_88, L17 VSS_78, L18 VSS_79, M5 VSS_80, M8 VSS_81, M9 VSS_84, M10 VSS_85, M12 VSS_62, M13 VSS_60, M14 VSS_75, M15 VSS_82, M16 VSS_83, M17 VSS_86, N3 VSS_89, N5 VSS_90, N6 VSS_91, N7 VSS_92, N8 VSS_93, N9 VSS_96, N10 VSS_97, N14 VSS_74, N15 VSS_94, N16 VSS_95, P4 VSS_100, P5 VSS_101, P6 VSS_102, P7 VSS_103, P8 VSS_104, P9 VSS_105, P10 VSS_106, P11 VSS_107, P12 VSS_108, P13 VSS_109, P14 VSS_110, P15 VSS_112, P16 VSS_111, R5 VSS_113, R6 VSS_114, R7 VSS_115, R8 VSS_116, R9 VSS_117, R10 VSS_118, R11 VSS_119, R12 VSS_120, R13 VSS_121, R14 VSS_122, R15 VSS_123, R16 VSS_124, R17 VSS_125, T3 VSS_126, T4 VSS_127, T5 VSS_128, T6 VSS_129, T7 VSS_130, T8 VSS_131, T9 VSS_132, T10 VSS_133, T11 VSS_134, T12 VSS_36, T14 VSS_136, T15 VSS_137, T16 VSS_138, T17 VSS_139, T18 VSS_140, U5 VSS_141, U14 VSS_142, U15 VSS_143, U16 VSS_144, U17 VSS_145, U18 VSS_146, V2 VSS_147, V5 VSS_148, V16 VSS_149, V17 VSS_150, V18 VSS_151, V19 VSS_152, W3 VSS_153, W4 VSS_135, W11 VSS_35, W17 VSS_99, W18 VSS_76
part D pins: U8 MIPI_CSI_AVDD_1V0, U9 MIPI_CSI_D2P, U10 MIPI_CSI_CLKN, U11 MIPI_CSI_RBIAS, V8 MIPI_CSI_D2N, V9 MIPI_CSI_D3P, V10 MIPI_CSI_CLKP, V11 MIPI_CSI_D0N, W8 MIPI_CSI_D3N, W9 MIPI_CSI_D1N, W10 MIPI_CSI_D0P, Y9 MIPI_CSI_D1P
part E pins: AA10 USB_OTG_DM, AA11 USB_RBIAS, AA12 USB_HOST_DP, U12 USB_AVDD_1V0, V13 USB_AVDD_1V8, W13 USB_AVDD_3V3, Y10 USB_OTG_DP, Y11 USB_ID, Y12 USB_HOST_DM, Y13 USB_DET
part F pins: U13 ADC_AVDD_1V8, V14 ADC_IN0, V15 ADC_IN2, W14 ADC_IN1
part G pins: AA13 I2S1_SDI/PDM_SDIO_M1/GPIO2_C5_d, AA14 I2S1_SCLK/GPIO2_C2_d, AA15 I2S1_LRCK_TX/GPIO2_C1_d, W15 PDM_CLK0/GPIO2_C6_d, W16 VCCIO_APIO5, Y14 I2S1_MCLK/GPIO2_C3_d, Y15 I2S1_SDO/GPIO2_C4_d
part H pins: AA16 SDMMC0_D3/UART4_TX/JTAG_TMS/GPIO1_D5_u, AA17 SDMMC0_D0/UART2_TX_M0/GPIO1_D2_u, AA18 SDMMC0_D1/UART2_RX_M0/GPIO1_D3_u, AA19 SDMMC0_D2/UART4_RX/JTAG_TCK/GPIO1_D4_u, Y16 SDMMC0_CMD/UART4_RTS/GPIO1_D7_u, Y17 SDMMC0_CLKO/UART4_CTS/TEST_CLKO/GPIO1_D6_d, Y18 VCCIO_APIO2
part I pins: AA20 SDMMC0_DETN/GPIO0_A3_u, M18 PLL_AVDD_1V8, N17 AVSS, N18 PLL_AVDD_1V0, P17 PMU_VDD_1V0, T13 OTP_VCC_1V8, T21 GPIO0_A5_u, U19 PMUIO1, U20 OSC_24M_IN, U21 OSC_24M_OUT, V20 PMIC_SLEEP/GPIO0_A4_d, V21 GPIO0_A2_d, W19 NPOR, W20 TEST, W21 TSADC_SHUT/GPIO0_A6_z, Y19 GPIO0_A7_u, Y20 GPIO0_A1_d, Y21 REF_CLKO/GPIO0_A0_d
part J pins: M19 UART0_CTS/PMU_DEBUG_SOUT/PMU_DEBUG2/GPIO0_B4_u, N19 UART0_RTS/TEST_CLK1/GPIO0_B5_u, N20 UART0_TX/GPIO0_B2_d, N21 UART3_TX_M0/PWM1/GPIO0_C0_d, P18 UART0_RX/GPIO0_B3_d, P19 FLASH_VOLSEL/GPIO0_B6_u, P20 CLKIO_32K/GPIO0_C4_z, P21 I2C0_SDA/GPIO0_B1_u, R18 PWM0/OTG_DRV/GPIO0_B7_d, R19 UART3_RX_M0/PWM3/GPIO0_C1_d, R20 I2C1_SDA/UART3_RTS_M0/GPIO0_C3_u, R21 I2C0_SCL/GPIO0_B0_u, T19 OSC_VCCIO/PMUIO2, T20 I2C1_SCL/UART3_CTS_M0/PMU_DEBUG5/GPIO0_C2_u
part K pins: H19 SDMMC1_CMD/GPIO1_C4_u, J19 SDMMC1_D3/GPIO1_D1_u, J20 UART1_RX/GPIO1_C0_u, K19 VCCIO1, K20 UART1_TX/GPIO1_C1_u, K21 UART1_CTS/GPIO1_C2_u, L19 SDMMC1_D1/GPIO1_C7_u, L20 SDMMC1_D0/GPIO1_C6_u, L21 UART1_RTS/GPIO1_C3_u, M20 SDMMC1_CLK/GPIO1_C5_d, M21 SDMMC1_D2/GPIO1_D0_u
part L pins: B21 FLASH_D7/EMMC_D7/GPIO1_A7_u, C20 FLASH_D6/EMMC_D6/GPIO1_A6_u, C21 FLASH_D2/EMMC_D2/SFC_SIO2/GPIO1_A2_u, D20 FLASH_D5/EMMC_D5/GPIO1_A5_u, D21 FLASH_D1/EMMC_D1/SFC_SIO1/GPIO1_A1_u, E18 FLASH_ALE/EMMC_RSTN/GPIO1_B3_d, E19 FLASH_D3/EMMC_D3/SFC_SIO3/GPIO1_A3_u, E20 FLASH_D0/EMMC_D0/SFC_SIO0/GPIO1_A0_u, E21 FLASH_D4/EMMC_D4/SFC_CSN0/GPIO1_A4_u, F19 FLASH_CS0/EMMC_PWREN/GPIO1_B0_u, G19 FLASH_DQS/EMMC_CMD/GPIO1_B2_u, G20 FLASH_CS1/SPI0_CSN/GPIO1_B6_u, G21 FLASH_CLE/UART3_CTS_M1/SPI0_TXD/I2C3_SDA/GPIO1_B4_d, H18 FLASH_RDY/EMMC_CLKOUT/SFC_CLK/GPIO1_B1_u, H20 FLASH_WRN/UART3_RTS_M1/SPI0_RXD/I2C3_SCL/GPIO1_B5_u, H21 FLASH_RDN/UART3_RX_M1/SPI0_CLK/GPIO1_B7_u, J18 VCCIO_FLASH/VCCIO6
part M pins: A12 LVDS_TX3P/MIPI_TX_D3P/LCDC_DEN_M1, A14 LVDS_CLKP/MIPI_TX_CLKP/LCDC_D3_M1, A16 LVDS_TX1P/MIPI_TX_D1P/LCDC_D10_M1, A18 LCDC_D17/I2S0_8CH_SDI0/PWM7/TDM_SDI/TDM_SDI/GPIO3_C5_d, A20 LCDC_D12/I2S0_8CH_SDO1/GPIO3_C0_d, B12 LVDS_TX3N/MIPI_TX_D3N/LCDC_HSYNC_M1, B13 LVDS_TX2P/MIPI_TX_D2P/LCDC_D5_M1, B14 LVDS_CLKN/MIPI_TX_CLKN/LCDC_D4_M1, B15 LVDS_TX1N/MIPI_TX_D1N/LCDC_D1_M1, B16 LVDS_TX0N/MIPI_TX_D0N/LCDC_D11_M1, B17 LVDS_TX0P/MIPI_TX_D0P/LCDC_D8_M1, B18 LCDC_D6/GPIO3_B2_d, B19 LCDC_D15/I2S0_8CH_SCLKTX/PWM5/TDM_SCLK/TDM_SCLK/GPIO3_C3_d, B20 LCDC_D13/I2S0_8CH_MCLK/GPIO3_C1_d, C13 LVDS_TX2N/MIPI_TX_D2N/LCDC_VSYNC_M1, C14 LCDC_D2/GPIO3_A6_d, C15 LCDC_D0/GPIO3_A4_d, C16 LCDC_D9_M0/I2S0_8CH_LRCKRX/GPIO3_B5_d, C17 LCDC_D7/I2S0_8CH_SDI1/GPIO3_B3_d, C18 LCDC_D16/I2S0_8CH_SDO0/PWM6/TDM_SDO/TDM_SDO/GPIO3_C4_d, C19 LCDC_D14/I2S0_8CH_LRCKTX/PWM4/TDM_LRCK/TDM_FSYNC/GPIO3_C2_d, D12 VCCIO4, D13 LCDC_D18/PDM_CLK0_M0/CIF_D10_M1/GPIO3_C6_d, D14 LCDC_D19/PDM_CLK1/CIF_D11_M1/GPIO3_C7_d, D15 LCDC_D20/PDM_SDI1/CIF_CLKOUT_M1/GPIO3_D0_d, D16 LCDC_D21/PDM_SDI2/CIF_VSYNC_M1/ISP_PRELIGHT_TRIG/GPIO3_D1_d, D17 LCDC_D22/PDM_SDI3/CIF_HREF_M1/ISP_FLASH_TRIG/GPIO3_D2_d, D18 LCDC_D23/PDM_SDI0_M0/CIF_CLKIN_M1/ISP_FL_TRIG/GPIO3_D3_d, D19 LCDC_CLK/GPIO3_A0_d, E12 MIPI_DSI_VCCA_3V3, E13 LCDC_HSYNC_M0/I2S2_2CH_MCLK/CIF_D0_M1/UART5_RX/GPIO3_A1_d, E14 LCDC_DEN_M0/I2S2_2CH_LRCK/CIF_D2_M1/UART5_CTS/GPIO3_A3_d, E15 LCDC_D1_M0/I2S2_2CH_SDI/CIF_D3_M1/UART5_RTS/GPIO3_A5_d, E16 LCDC_D3_M0/I2S2_2CH_SDO/CIF_D4_M1/GPIO3_A7_d, E17 LCDC_D4_M0/I2S0_8CH_SDI3/CIF_D5_M1/GPIO3_B0_d, F11 MIPI_DSI_VCCA_1V0, F12 MIPI_DSI_VCCA_1V8, F13 LCDC_VSYNC_M0/I2S2_2CH_SCLK/CIF_D1_M1/UART5_TX/GPIO3_A2_d, F17 LCDC_D5_M0/I2S0_8CH_SDI2/CIF_D6_M1/SPI1_CSN/GPIO3_B1_d, F18 LCDC_D8_M0/I2S0_8CH_SCLKRX/CIF_D7_M1/SPI1_TXD/GPIO3_B4_d, G12 LVDS_RBIAS, G17 LCDC_D11_M0/I2S0_8CH_SDO2/CIF_D9_M1/SPI1_CLK/GPIO3_B7_d, G18 LCDC_D10_M0/I2S0_8CH_SDO3/CIF_D8_M1/SPI1_RXD/GPIO3_B6_d
part N pins: H14 VDD_CPU_1, H15 VDD_CPU_2, H16 VDD_CPU_3, J14 VDD_CPU_4, J15 VDD_CPU_5, J16 VDD_CPU_6, K9 VDD_LOGIC_1, K10 VDD_LOGIC_3, K14 VDD_CPU_7, K15 VDD_CPU_8, K16 VDD_CPU_9, L9 VDD_LOGIC_2, L10 VDD_LOGIC_4, L11 VDD_LOGIC_9, M11 VDD_LOGIC_8, N11 VDD_LOGIC_5, N12 VDD_LOGIC_7, N13 VDD_LOGIC_6

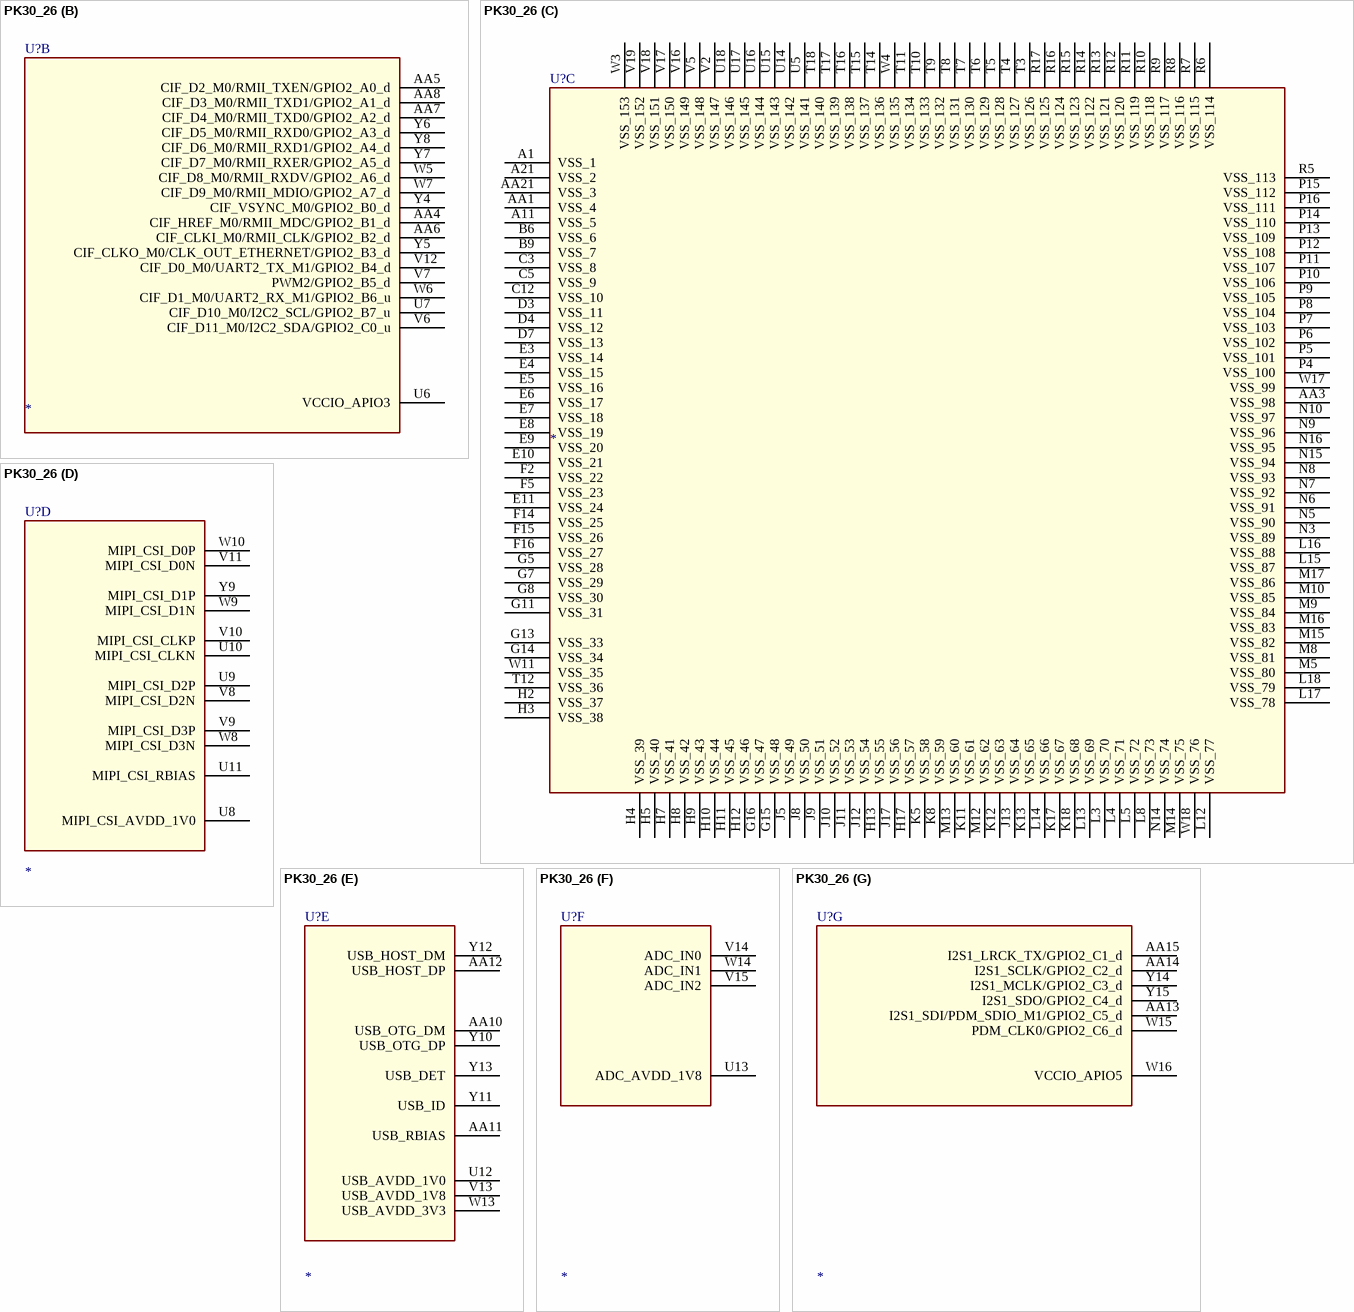
[diagram p184: symbol PK30_26]

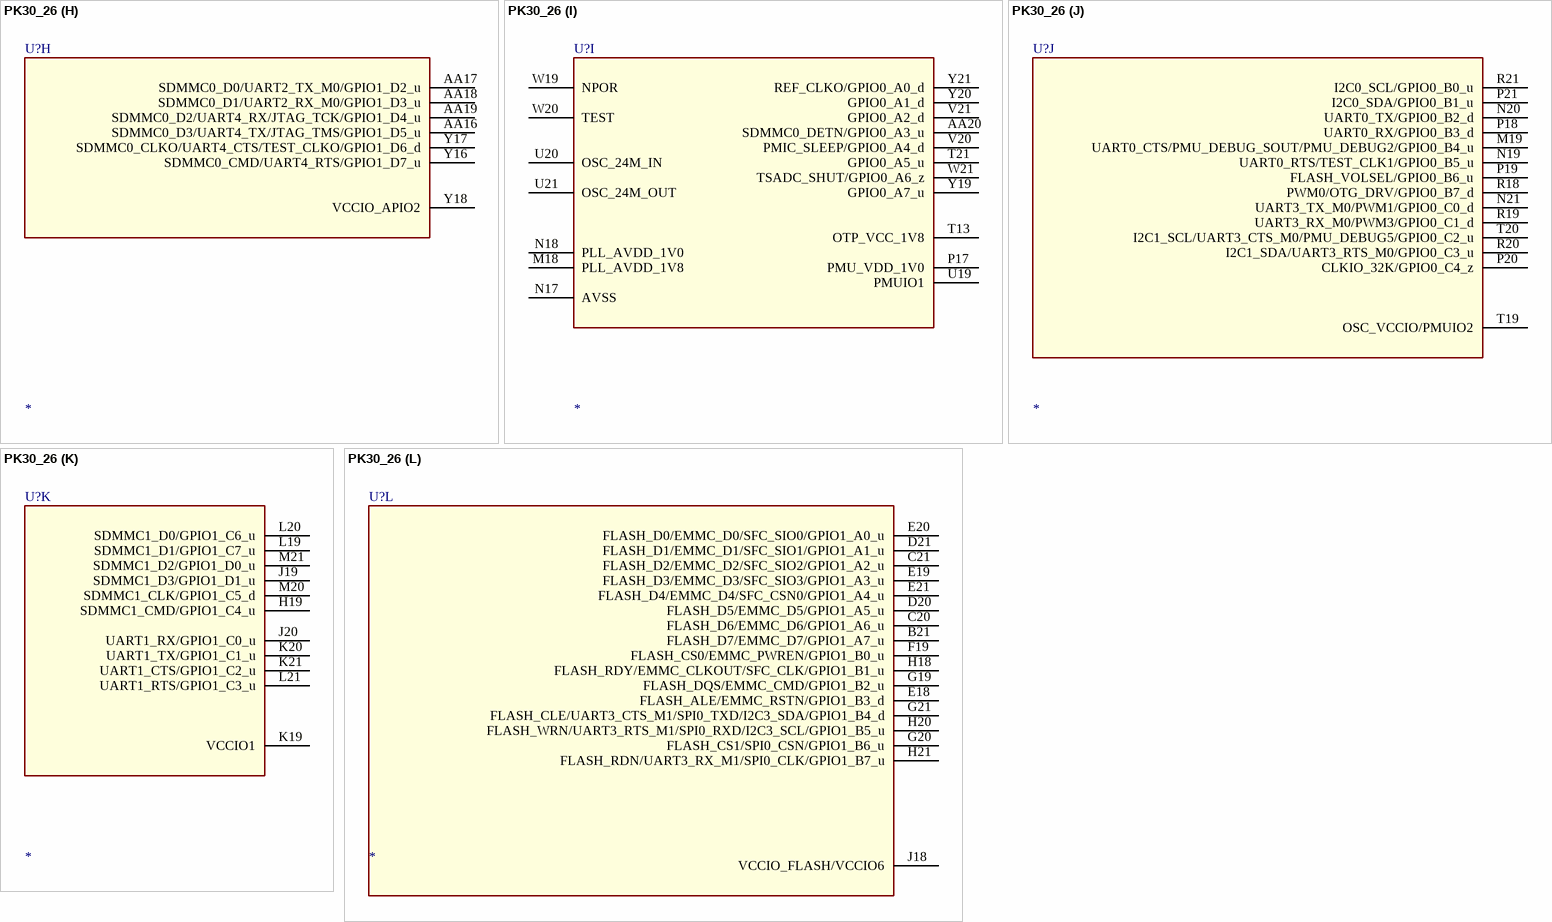
[diagram p185: symbol PK30_26]

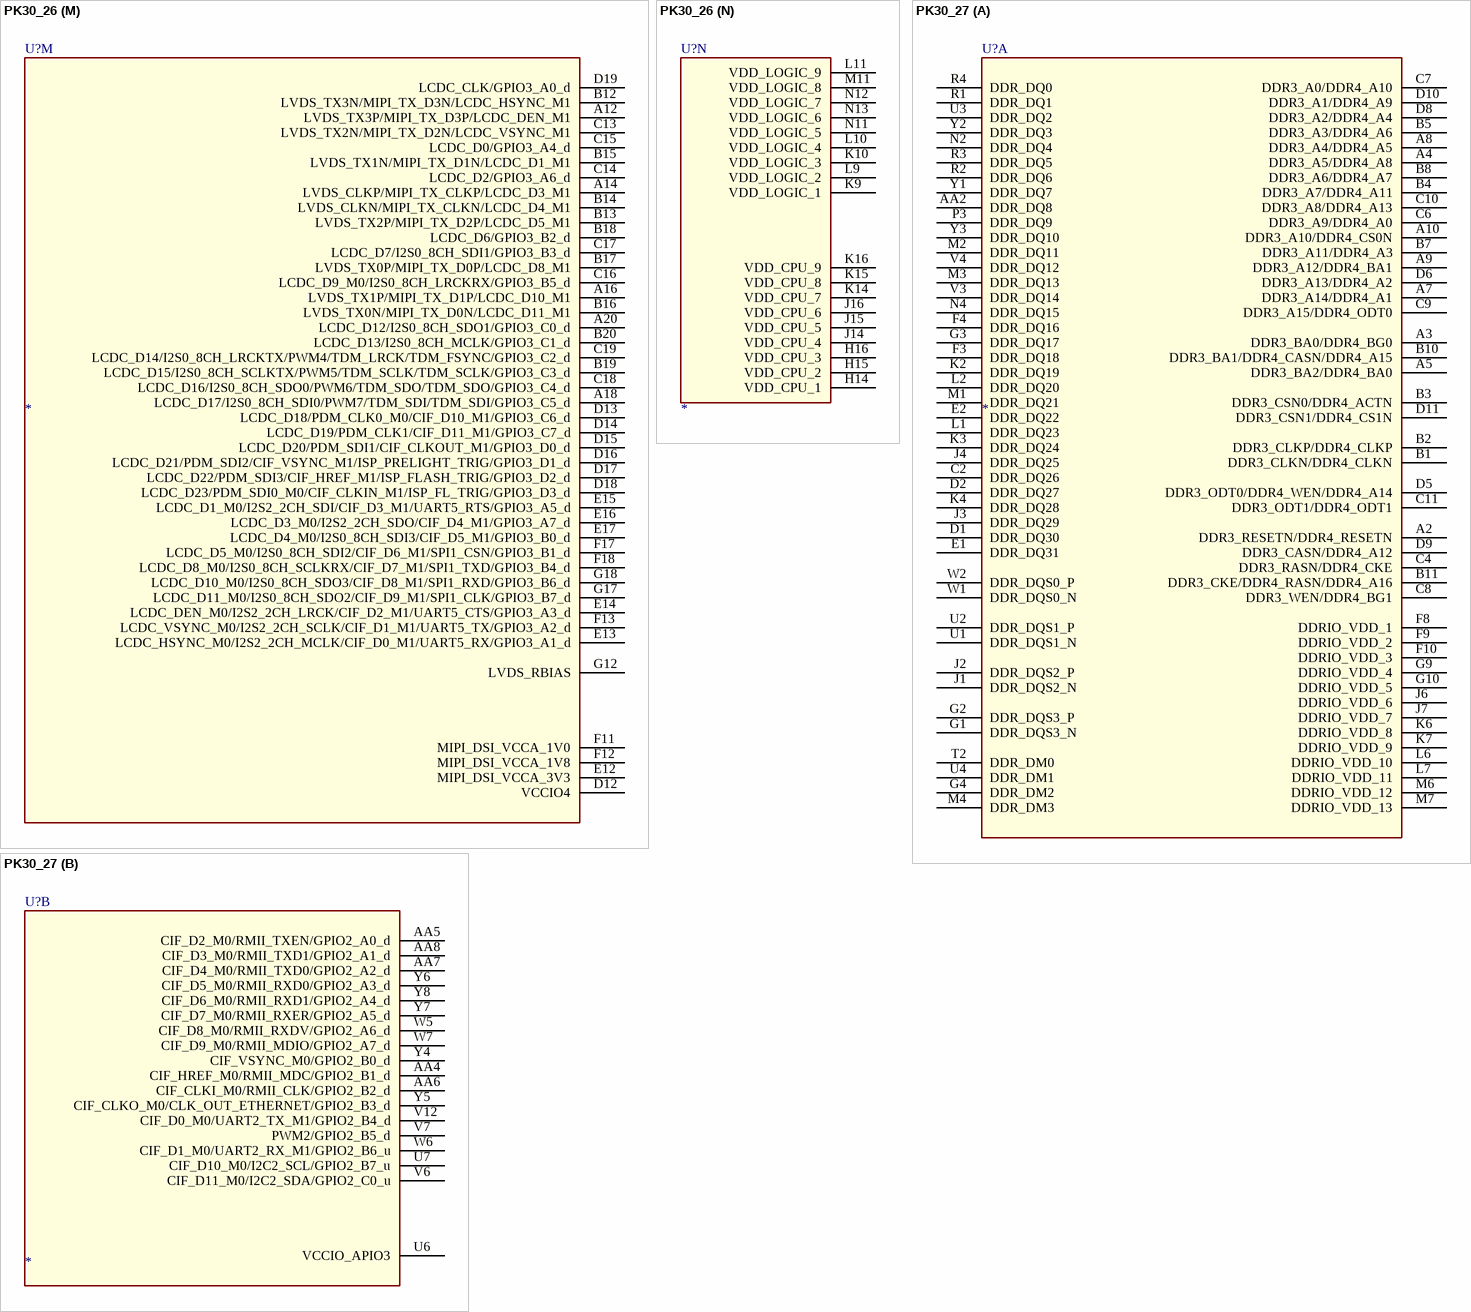
[diagram p186: symbols PK30_26 to PK30_27]

## PK30_26
designator U?
SWAP_INFO: (S1+S2+S3+S4+S5+S6+S7+S8+S9+S10+S11+S12+S13+S14); SPLIT_INST: TRUE
part A pins: A2 DDR3_RESETN/DDR4_RESETN, A3 DDR3_BA0/DDR4_BG0, A4 DDR3_A5/DDR4_A8, A5 DDR3_BA2/DDR4_BA0, A7 DDR3_A14/DDR4_A1, A8 DDR3_A4/DDR4_A5, A9 DDR3_A12/DDR4_BA1, A10 DDR3_A10/DDR4_CS0N, AA2 DDR_DQ8, B1 DDR3_CLKN/DDR4_CLKN, B2 DDR3_CLKP/DDR4_CLKP, B3 DDR3_CSN0/DDR4_ACTN, B4 DDR3_A7/DDR4_A11, B5 DDR3_A3/DDR4_A6, B7 DDR3_A11/DDR4_A3, B8 DDR3_A6/DDR4_A7, B10 DDR3_BA1/DDR4_CASN/DDR4_A15, B11 DDR3_CKE/DDR4_RASN/DDR4_A16, C2 DDR_DQ26, C4 DDR3_RASN/DDR4_CKE, C6 DDR3_A9/DDR4_A0, C7 DDR3_A0/DDR4_A10, C8 DDR3_WEN/DDR4_BG1, C9 DDR3_A15/DDR4_ODT0, C10 DDR3_A8/DDR4_A13, C11 DDR3_ODT1/DDR4_ODT1, D1 DDR_DQ30, D2 DDR_DQ27, D5 DDR3_ODT0/DDR4_WEN/DDR4_A14, D6 DDR3_A13/DDR4_A2, D8 DDR3_A2/DDR4_A4, D9 DDR3_CASN/DDR4_A12, D10 DDR3_A1/DDR4_A9, D11 DDR3_CSN1/DDR4_CS1N, E1 DDR_DQ31, E2 DDR_DQ22, F3 DDR_DQ18, F4 DDR_DQ16, F8 DDRIO_VDD_1, F9 DDRIO_VDD_2, F10 DDRIO_VDD_3, G1 DDR_DQS3_N, G2 DDR_DQS3_P, G3 DDR_DQ17, G4 DDR_DM2, G9 DDRIO_VDD_4, G10 DDRIO_VDD_5, J1 DDR_DQS2_N, J2 DDR_DQS2_P, J3 DDR_DQ29, J4 DDR_DQ25, J6 DDRIO_VDD_6, J7 DDRIO_VDD_7, K2 DDR_DQ19, K3 DDR_DQ24, K4 DDR_DQ28, K6 DDRIO_VDD_8, K7 DDRIO_VDD_9, L1 DDR_DQ23, L2 DDR_DQ20, L6 DDRIO_VDD_10, L7 DDRIO_VDD_11, M1 DDR_DQ21, M2 DDR_DQ11, M3 DDR_DQ13, M4 DDR_DM3, M6 DDRIO_VDD_12, M7 DDRIO_VDD_13, N2 DDR_DQ4, N4 DDR_DQ15, P3 DDR_DQ9, R1 DDR_DQ1, R2 DDR_DQ6, R3 DDR_DQ5, R4 DDR_DQ0, T2 DDR_DM0, U1 DDR_DQS1_N, U2 DDR_DQS1_P, U3 DDR_DQ2, U4 DDR_DM1, V3 DDR_DQ14, V4 DDR_DQ12, W1 DDR_DQS0_N, W2 DDR_DQS0_P, Y1 DDR_DQ7, Y2 DDR_DQ3, Y3 DDR_DQ10
part B pins: AA4 CIF_HREF_M0/RMII_MDC/GPIO2_B1_d, AA5 CIF_D2_M0/RMII_TXEN/GPIO2_A0_d, AA6 CIF_CLKI_M0/RMII_CLK/GPIO2_B2_d, AA7 CIF_D4_M0/RMII_TXD0/GPIO2_A2_d, AA8 CIF_D3_M0/RMII_TXD1/GPIO2_A1_d, U6 VCCIO_APIO3, U7 CIF_D10_M0/I2C2_SCL/GPIO2_B7_u, V6 CIF_D11_M0/I2C2_SDA/GPIO2_C0_u, V7 PWM2/GPIO2_B5_d, V12 CIF_D0_M0/UART2_TX_M1/GPIO2_B4_d, W5 CIF_D8_M0/RMII_RXDV/GPIO2_A6_d, W6 CIF_D1_M0/UART2_RX_M1/GPIO2_B6_u, W7 CIF_D9_M0/RMII_MDIO/GPIO2_A7_d, Y4 CIF_VSYNC_M0/GPIO2_B0_d, Y5 CIF_CLKO_M0/CLK_OUT_ETHERNET/GPIO2_B3_d, Y6 CIF_D5_M0/RMII_RXD0/GPIO2_A3_d, Y7 CIF_D7_M0/RMII_RXER/GPIO2_A5_d, Y8 CIF_D6_M0/RMII_RXD1/GPIO2_A4_d
part C pins: A1 VSS_1, A11 VSS_5, A21 VSS_2, AA1 VSS_4, AA3 VSS_98, AA21 VSS_3, B6 VSS_6, B9 VSS_7, C3 VSS_8, C5 VSS_9, C12 VSS_10, D3 VSS_11, D4 VSS_12, D7 VSS_13, E3 VSS_14, E4 VSS_15, E5 VSS_16, E6 VSS_17, E7 VSS_18, E8 VSS_19, E9 VSS_20, E10 VSS_21, E11 VSS_24, F2 VSS_22, F5 VSS_23, F14 VSS_25, F15 VSS_26, F16 VSS_27, G5 VSS_28, G7 VSS_29, G8 VSS_30, G11 VSS_31, G13 VSS_33, G14 VSS_34, G15 VSS_48, G16 VSS_47, H2 VSS_37, H3 VSS_38, H4 VSS_39, H5 VSS_40, H7 VSS_41, H8 VSS_42, H9 VSS_43, H10 VSS_44, H11 VSS_45, H12 VSS_46, H13 VSS_55, H17 VSS_57, J5 VSS_49, J8 VSS_50, J9 VSS_51, J10 VSS_52, J11 VSS_53, J12 VSS_54, J13 VSS_64, J17 VSS_56, K5 VSS_58, K8 VSS_59, K11 VSS_61, K12 VSS_63, K13 VSS_65, K17 VSS_67, K18 VSS_68, L3 VSS_70, L4 VSS_71, L5 VSS_72, L8 VSS_73, L12 VSS_77, L13 VSS_69, L14 VSS_66, L15 VSS_87, L16 VSS_88, L17 VSS_78, L18 VSS_79, M5 VSS_80, M8 VSS_81, M9 VSS_84, M10 VSS_85, M12 VSS_62, M13 VSS_60, M14 VSS_75, M15 VSS_82, M16 VSS_83, M17 VSS_86, N3 VSS_89, N5 VSS_90, N6 VSS_91, N7 VSS_92, N8 VSS_93, N9 VSS_96, N10 VSS_97, N14 VSS_74, N15 VSS_94, N16 VSS_95, P4 VSS_100, P5 VSS_101, P6 VSS_102, P7 VSS_103, P8 VSS_104, P9 VSS_105, P10 VSS_106, P11 VSS_107, P12 VSS_108, P13 VSS_109, P14 VSS_110, P15 VSS_112, P16 VSS_111, R5 VSS_113, R6 VSS_114, R7 VSS_115, R8 VSS_116, R9 VSS_117, R10 VSS_118, R11 VSS_119, R12 VSS_120, R13 VSS_121, R14 VSS_122, R15 VSS_123, R16 VSS_124, R17 VSS_125, T3 VSS_126, T4 VSS_127, T5 VSS_128, T6 VSS_129, T7 VSS_130, T8 VSS_131, T9 VSS_132, T10 VSS_133, T11 VSS_134, T12 VSS_36, T14 VSS_136, T15 VSS_137, T16 VSS_138, T17 VSS_139, T18 VSS_140, U5 VSS_141, U14 VSS_142, U15 VSS_143, U16 VSS_144, U17 VSS_145, U18 VSS_146, V2 VSS_147, V5 VSS_148, V16 VSS_149, V17 VSS_150, V18 VSS_151, V19 VSS_152, W3 VSS_153, W4 VSS_135, W11 VSS_35, W17 VSS_99, W18 VSS_76
part D pins: U8 MIPI_CSI_AVDD_1V0, U9 MIPI_CSI_D2P, U10 MIPI_CSI_CLKN, U11 MIPI_CSI_RBIAS, V8 MIPI_CSI_D2N, V9 MIPI_CSI_D3P, V10 MIPI_CSI_CLKP, V11 MIPI_CSI_D0N, W8 MIPI_CSI_D3N, W9 MIPI_CSI_D1N, W10 MIPI_CSI_D0P, Y9 MIPI_CSI_D1P
part E pins: AA10 USB_OTG_DM, AA11 USB_RBIAS, AA12 USB_HOST_DP, U12 USB_AVDD_1V0, V13 USB_AVDD_1V8, W13 USB_AVDD_3V3, Y10 USB_OTG_DP, Y11 USB_ID, Y12 USB_HOST_DM, Y13 USB_DET
part F pins: U13 ADC_AVDD_1V8, V14 ADC_IN0, V15 ADC_IN2, W14 ADC_IN1
part G pins: AA13 I2S1_SDI/PDM_SDIO_M1/GPIO2_C5_d, AA14 I2S1_SCLK/GPIO2_C2_d, AA15 I2S1_LRCK_TX/GPIO2_C1_d, W15 PDM_CLK0/GPIO2_C6_d, W16 VCCIO_APIO5, Y14 I2S1_MCLK/GPIO2_C3_d, Y15 I2S1_SDO/GPIO2_C4_d
part H pins: AA16 SDMMC0_D3/UART4_TX/JTAG_TMS/GPIO1_D5_u, AA17 SDMMC0_D0/UART2_TX_M0/GPIO1_D2_u, AA18 SDMMC0_D1/UART2_RX_M0/GPIO1_D3_u, AA19 SDMMC0_D2/UART4_RX/JTAG_TCK/GPIO1_D4_u, Y16 SDMMC0_CMD/UART4_RTS/GPIO1_D7_u, Y17 SDMMC0_CLKO/UART4_CTS/TEST_CLKO/GPIO1_D6_d, Y18 VCCIO_APIO2
part I pins: AA20 SDMMC0_DETN/GPIO0_A3_u, M18 PLL_AVDD_1V8, N17 AVSS, N18 PLL_AVDD_1V0, P17 PMU_VDD_1V0, T13 OTP_VCC_1V8, T21 GPIO0_A5_u, U19 PMUIO1, U20 OSC_24M_IN, U21 OSC_24M_OUT, V20 PMIC_SLEEP/GPIO0_A4_d, V21 GPIO0_A2_d, W19 NPOR, W20 TEST, W21 TSADC_SHUT/GPIO0_A6_z, Y19 GPIO0_A7_u, Y20 GPIO0_A1_d, Y21 REF_CLKO/GPIO0_A0_d
part J pins: M19 UART0_CTS/PMU_DEBUG_SOUT/PMU_DEBUG2/GPIO0_B4_u, N19 UART0_RTS/TEST_CLK1/GPIO0_B5_u, N20 UART0_TX/GPIO0_B2_d, N21 UART3_TX_M0/PWM1/GPIO0_C0_d, P18 UART0_RX/GPIO0_B3_d, P19 FLASH_VOLSEL/GPIO0_B6_u, P20 CLKIO_32K/GPIO0_C4_z, P21 I2C0_SDA/GPIO0_B1_u, R18 PWM0/OTG_DRV/GPIO0_B7_d, R19 UART3_RX_M0/PWM3/GPIO0_C1_d, R20 I2C1_SDA/UART3_RTS_M0/GPIO0_C3_u, R21 I2C0_SCL/GPIO0_B0_u, T19 OSC_VCCIO/PMUIO2, T20 I2C1_SCL/UART3_CTS_M0/PMU_DEBUG5/GPIO0_C2_u
part K pins: H19 SDMMC1_CMD/GPIO1_C4_u, J19 SDMMC1_D3/GPIO1_D1_u, J20 UART1_RX/GPIO1_C0_u, K19 VCCIO1, K20 UART1_TX/GPIO1_C1_u, K21 UART1_CTS/GPIO1_C2_u, L19 SDMMC1_D1/GPIO1_C7_u, L20 SDMMC1_D0/GPIO1_C6_u, L21 UART1_RTS/GPIO1_C3_u, M20 SDMMC1_CLK/GPIO1_C5_d, M21 SDMMC1_D2/GPIO1_D0_u
part L pins: B21 FLASH_D7/EMMC_D7/GPIO1_A7_u, C20 FLASH_D6/EMMC_D6/GPIO1_A6_u, C21 FLASH_D2/EMMC_D2/SFC_SIO2/GPIO1_A2_u, D20 FLASH_D5/EMMC_D5/GPIO1_A5_u, D21 FLASH_D1/EMMC_D1/SFC_SIO1/GPIO1_A1_u, E18 FLASH_ALE/EMMC_RSTN/GPIO1_B3_d, E19 FLASH_D3/EMMC_D3/SFC_SIO3/GPIO1_A3_u, E20 FLASH_D0/EMMC_D0/SFC_SIO0/GPIO1_A0_u, E21 FLASH_D4/EMMC_D4/SFC_CSN0/GPIO1_A4_u, F19 FLASH_CS0/EMMC_PWREN/GPIO1_B0_u, G19 FLASH_DQS/EMMC_CMD/GPIO1_B2_u, G20 FLASH_CS1/SPI0_CSN/GPIO1_B6_u, G21 FLASH_CLE/UART3_CTS_M1/SPI0_TXD/I2C3_SDA/GPIO1_B4_d, H18 FLASH_RDY/EMMC_CLKOUT/SFC_CLK/GPIO1_B1_u, H20 FLASH_WRN/UART3_RTS_M1/SPI0_RXD/I2C3_SCL/GPIO1_B5_u, H21 FLASH_RDN/UART3_RX_M1/SPI0_CLK/GPIO1_B7_u, J18 VCCIO_FLASH/VCCIO6
part M pins: A12 LVDS_TX3P/MIPI_TX_D3P/LCDC_DEN_M1, A14 LVDS_CLKP/MIPI_TX_CLKP/LCDC_D3_M1, A16 LVDS_TX1P/MIPI_TX_D1P/LCDC_D10_M1, A18 LCDC_D17/I2S0_8CH_SDI0/PWM7/TDM_SDI/TDM_SDI/GPIO3_C5_d, A20 LCDC_D12/I2S0_8CH_SDO1/GPIO3_C0_d, B12 LVDS_TX3N/MIPI_TX_D3N/LCDC_HSYNC_M1, B13 LVDS_TX2P/MIPI_TX_D2P/LCDC_D5_M1, B14 LVDS_CLKN/MIPI_TX_CLKN/LCDC_D4_M1, B15 LVDS_TX1N/MIPI_TX_D1N/LCDC_D1_M1, B16 LVDS_TX0N/MIPI_TX_D0N/LCDC_D11_M1, B17 LVDS_TX0P/MIPI_TX_D0P/LCDC_D8_M1, B18 LCDC_D6/GPIO3_B2_d, B19 LCDC_D15/I2S0_8CH_SCLKTX/PWM5/TDM_SCLK/TDM_SCLK/GPIO3_C3_d, B20 LCDC_D13/I2S0_8CH_MCLK/GPIO3_C1_d, C13 LVDS_TX2N/MIPI_TX_D2N/LCDC_VSYNC_M1, C14 LCDC_D2/GPIO3_A6_d, C15 LCDC_D0/GPIO3_A4_d, C16 LCDC_D9_M0/I2S0_8CH_LRCKRX/GPIO3_B5_d, C17 LCDC_D7/I2S0_8CH_SDI1/GPIO3_B3_d, C18 LCDC_D16/I2S0_8CH_SDO0/PWM6/TDM_SDO/TDM_SDO/GPIO3_C4_d, C19 LCDC_D14/I2S0_8CH_LRCKTX/PWM4/TDM_LRCK/TDM_FSYNC/GPIO3_C2_d, D12 VCCIO4, D13 LCDC_D18/PDM_CLK0_M0/CIF_D10_M1/GPIO3_C6_d, D14 LCDC_D19/PDM_CLK1/CIF_D11_M1/GPIO3_C7_d, D15 LCDC_D20/PDM_SDI1/CIF_CLKOUT_M1/GPIO3_D0_d, D16 LCDC_D21/PDM_SDI2/CIF_VSYNC_M1/ISP_PRELIGHT_TRIG/GPIO3_D1_d, D17 LCDC_D22/PDM_SDI3/CIF_HREF_M1/ISP_FLASH_TRIG/GPIO3_D2_d, D18 LCDC_D23/PDM_SDI0_M0/CIF_CLKIN_M1/ISP_FL_TRIG/GPIO3_D3_d, D19 LCDC_CLK/GPIO3_A0_d, E12 MIPI_DSI_VCCA_3V3, E13 LCDC_HSYNC_M0/I2S2_2CH_MCLK/CIF_D0_M1/UART5_RX/GPIO3_A1_d, E14 LCDC_DEN_M0/I2S2_2CH_LRCK/CIF_D2_M1/UART5_CTS/GPIO3_A3_d, E15 LCDC_D1_M0/I2S2_2CH_SDI/CIF_D3_M1/UART5_RTS/GPIO3_A5_d, E16 LCDC_D3_M0/I2S2_2CH_SDO/CIF_D4_M1/GPIO3_A7_d, E17 LCDC_D4_M0/I2S0_8CH_SDI3/CIF_D5_M1/GPIO3_B0_d, F11 MIPI_DSI_VCCA_1V0, F12 MIPI_DSI_VCCA_1V8, F13 LCDC_VSYNC_M0/I2S2_2CH_SCLK/CIF_D1_M1/UART5_TX/GPIO3_A2_d, F17 LCDC_D5_M0/I2S0_8CH_SDI2/CIF_D6_M1/SPI1_CSN/GPIO3_B1_d, F18 LCDC_D8_M0/I2S0_8CH_SCLKRX/CIF_D7_M1/SPI1_TXD/GPIO3_B4_d, G12 LVDS_RBIAS, G17 LCDC_D11_M0/I2S0_8CH_SDO2/CIF_D9_M1/SPI1_CLK/GPIO3_B7_d, G18 LCDC_D10_M0/I2S0_8CH_SDO3/CIF_D8_M1/SPI1_RXD/GPIO3_B6_d
part N pins: H14 VDD_CPU_1, H15 VDD_CPU_2, H16 VDD_CPU_3, J14 VDD_CPU_4, J15 VDD_CPU_5, J16 VDD_CPU_6, K9 VDD_LOGIC_1, K10 VDD_LOGIC_3, K14 VDD_CPU_7, K15 VDD_CPU_8, K16 VDD_CPU_9, L9 VDD_LOGIC_2, L10 VDD_LOGIC_4, L11 VDD_LOGIC_9, M11 VDD_LOGIC_8, N11 VDD_LOGIC_5, N12 VDD_LOGIC_7, N13 VDD_LOGIC_6

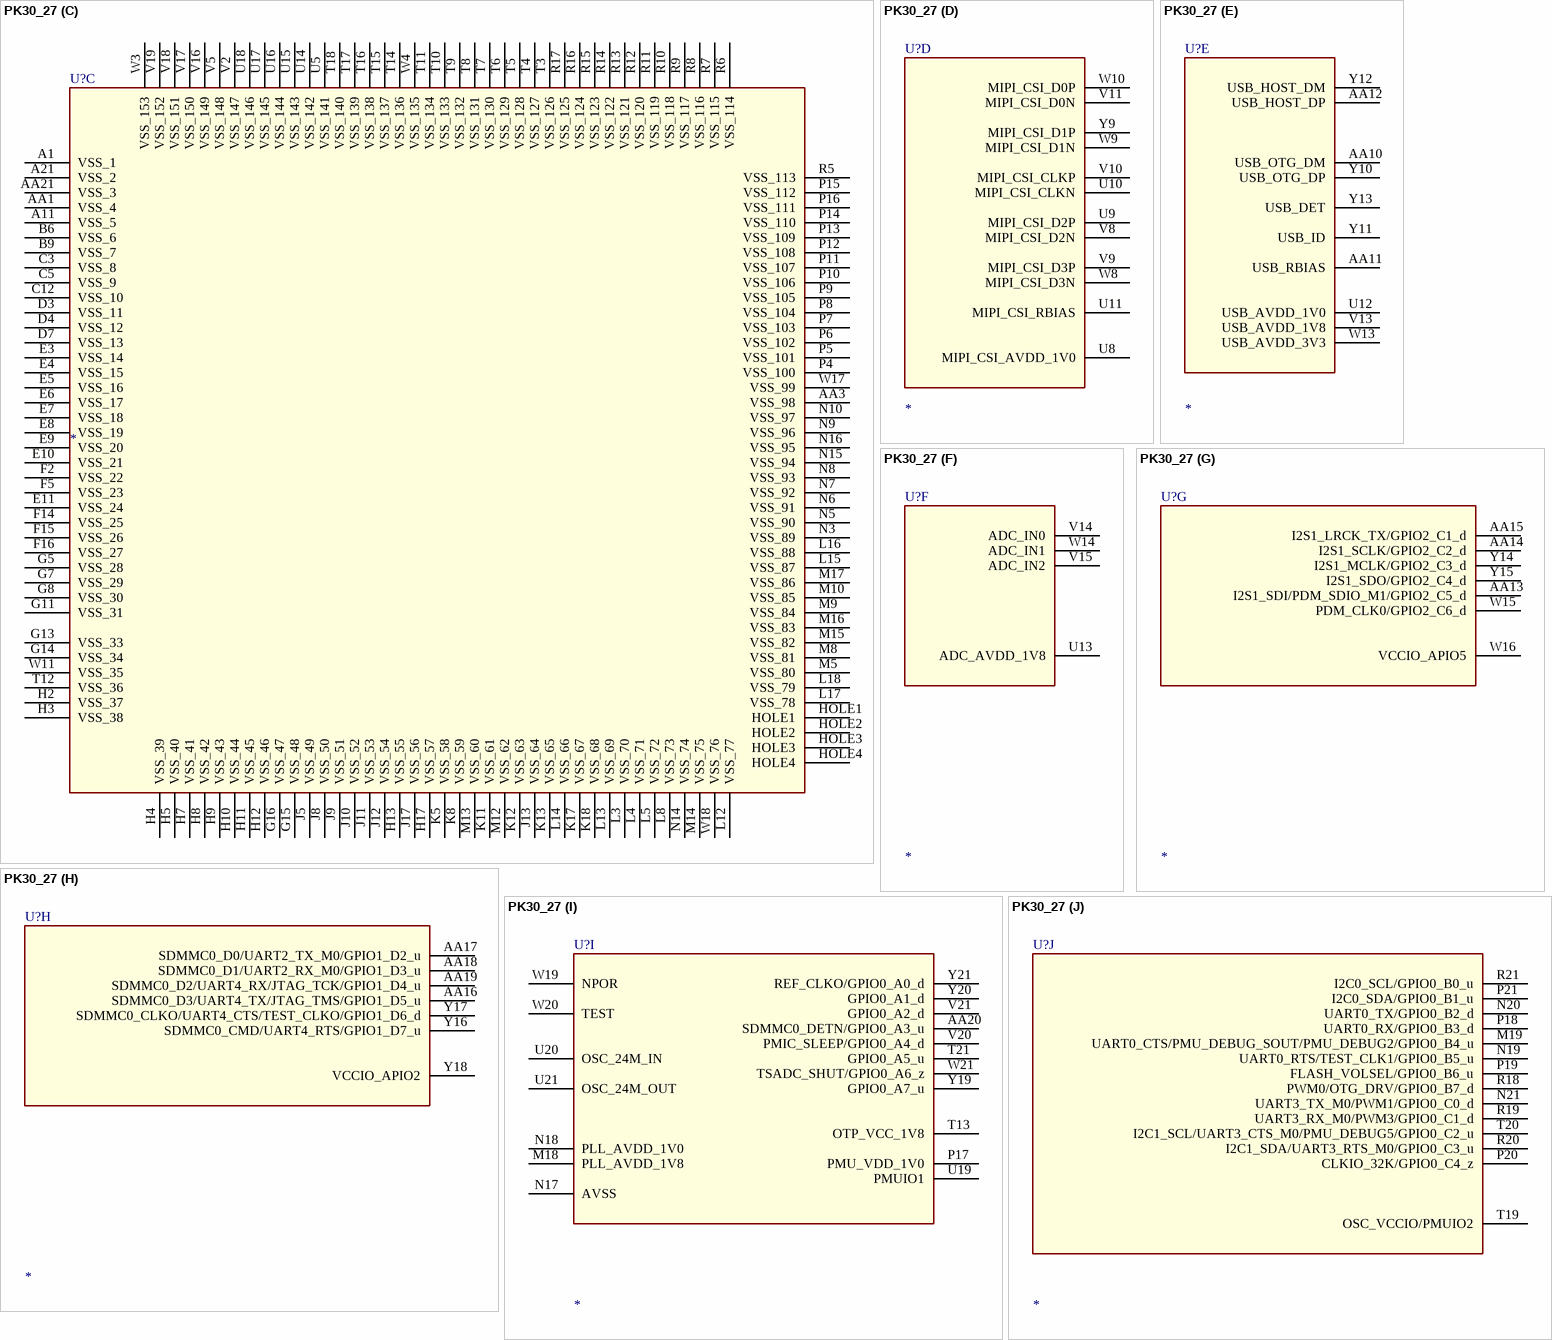
[diagram p187: symbol PK30_27]

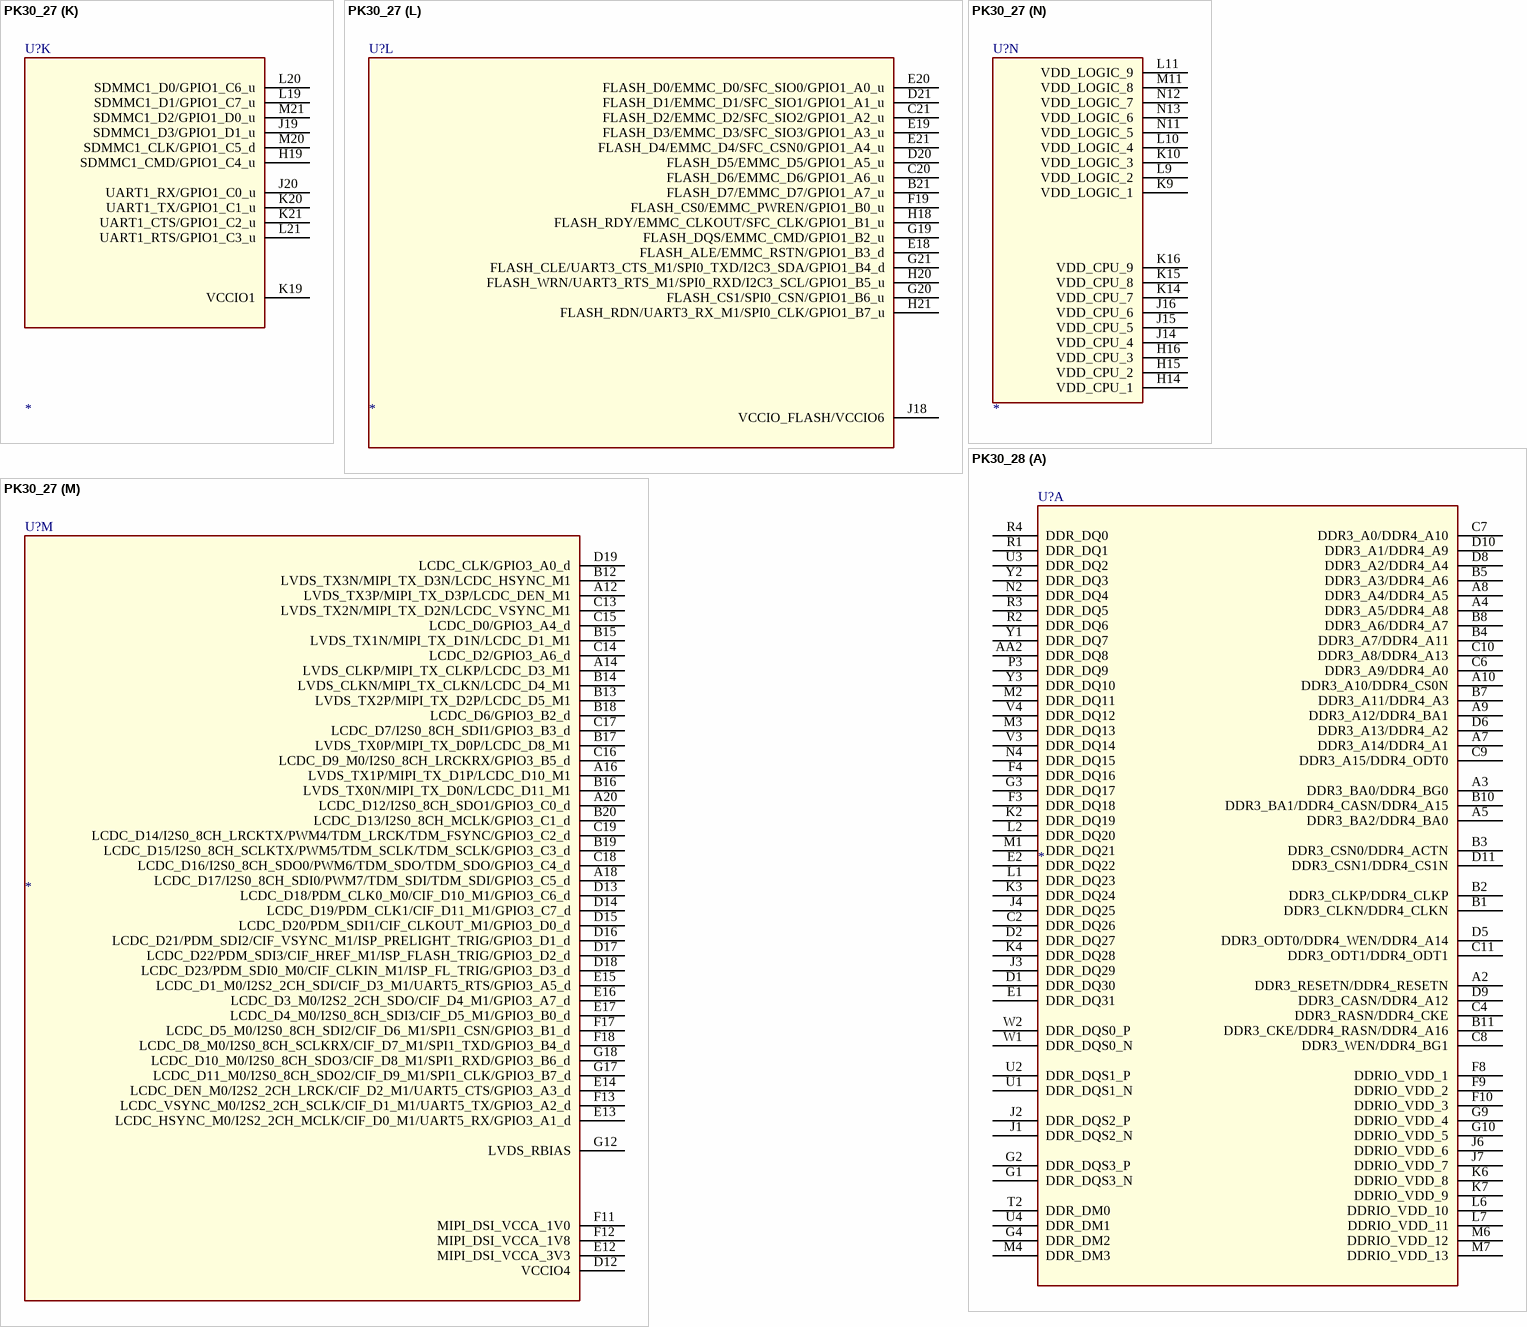
[diagram p188: symbols PK30_27 to PK30_28]